# Altium schematic symbol library alientek_sch_lib.SchLib: 379 symbols (part 1 of 3)
Pins are listed as number, name and electrical type; pins without a type are passive.

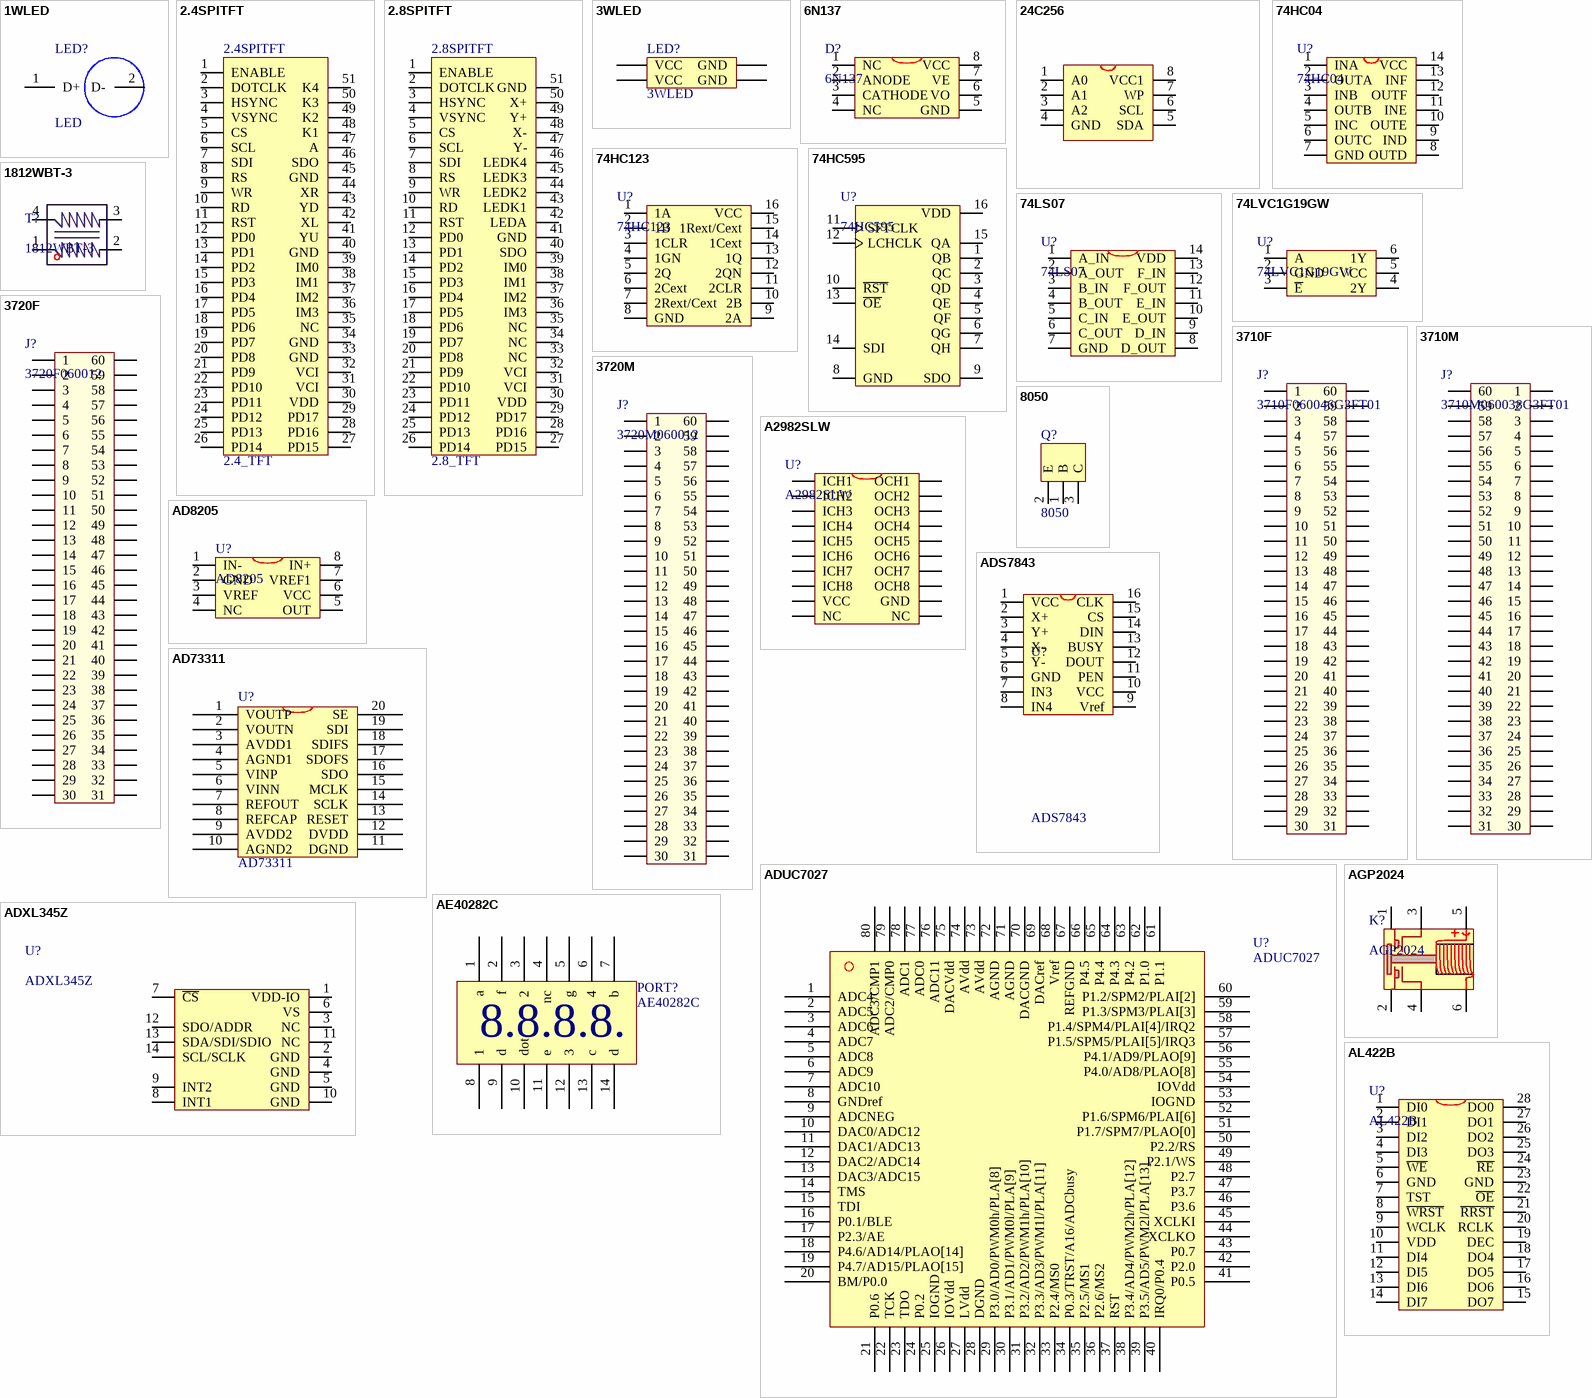
[diagram p0: symbols 1WLED to AL422B]

## 1WLED
designator LED?, comment LED
footprint PLED (POWER LED)
pins: 1 D+, 2 D-

## 2.4SPITFT
designator 2.4SPITFT, comment 2.4_TFT
footprint 2.4SPITFT (2.4_TFT)
pins: 1 ENABLE, 2 DOTCLK, 3 HSYNC, 4 VSYNC, 5 CS, 6 SCL, 7 SDI, 8 RS, 9 WR, 10 RD, 11 RST, 12 PD0, 13 PD1, 14 PD2, 15 PD3, 16 PD4, 17 PD5, 18 PD6, 19 PD7, 20 PD8, 21 PD9, 22 PD10, 23 PD11, 24 PD12, 25 PD13, 26 PD14, 27 PD15, 28 PD16, 29 PD17, 30 VDD, 31 VCI, 32 VCI, 33 GND, 34 GND, 35 NC, 36 IM3, 37 IM2, 38 IM1, 39 IM0, 40 GND, 41 YU, 42 XL, 43 YD, 44 XR, 45 GND, 46 SDO, 47 A, 48 K1, 49 K2, 50 K3, 51 K4

## 2.8SPITFT
designator 2.8SPITFT, comment 2.8_TFT
footprint 2.8SPITFT (2.8_TFT)
pins: 1 ENABLE, 2 DOTCLK, 3 HSYNC, 4 VSYNC, 5 CS, 6 SCL, 7 SDI, 8 RS, 9 WR, 10 RD, 11 RST, 12 PD0, 13 PD1, 14 PD2, 15 PD3, 16 PD4, 17 PD5, 18 PD6, 19 PD7, 20 PD8, 21 PD9, 22 PD10, 23 PD11, 24 PD12, 25 PD13, 26 PD14, 27 PD15, 28 PD16, 29 PD17, 30 VDD, 31 VCI, 32 VCI, 33 NC, 34 NC, 35 NC, 36 IM3, 37 IM2, 38 IM1, 39 IM0, 40 SDO, 41 GND, 42 LEDA, 43 LEDK1, 44 LEDK2, 45 LEDK3, 46 LEDK4, 47 Y-, 48 X-, 49 Y+, 50 X+, 51 GND

## 3WLED
designator LED?
footprint 3WLEDS (3WLED-21)
pins: 1 VCC, 2 VCC, 3 GND, 4 GND

## 6N137
designator D?
footprint DIP8 (DIP8 Row Spacing 7.62 mm; Pitch 2.54 mm)
pins: 1 NC, 2 ANODE, 3 CATHODE, 4 NC, 5 GND, 6 VO, 7 VE, 8 VCC

## 24C256
designator U?
EEPROM
footprint SOP-8 (SSOP8)
footprint TSSOP8 (Shrink Small Outline, MSOP; 8 Leads; Body Width 3 mm; Pitch 0.65 mm)
pins: 1 A0, 2 A1, 3 A2, 4 GND, 5 SDA, 6 SCL, 7 WP, 8 VCC1

## 74HC04
designator U?
footprint SOP14W (CD4066)
pins: 1 INA, 2 OUTA, 3 INB, 4 OUTB, 5 INC, 6 OUTC, 7 GND, 8 OUTD, 9 IND, 10 OUTE, 11 INE, 12 OUTF, 13 INF, 14 VCC

## 74HC123
designator U?
footprint SOP16M (Small Outline; 16 Leads; Body Width 3.9 mm; Pitch 1.27 mm)
pins: 1 1A, 2 1B, 3 1CLR, 4 1GN, 5 2Q, 6 2Cext, 7 2Rext/Cext, 8 GND, 9 2A, 10 2B, 11 2CLR, 12 2QN, 13 1Q, 14 1Cext, 15 1Rext/Cext, 16 VCC

## 74HC595
designator U?
footprint SOP16M (Small Outline; 16 Leads; Body Width 3.9 mm; Pitch 1.27 mm)
pins: 1 QB, 2 QC, 3 QD, 4 QE, 5 QF, 6 QG, 7 QH, 8 GND, 9 SDO, 10 ~{RST}, 11 SFTCLK, 12 LCHCLK, 13 ~{OE}, 14 SDI, 15 QA, 16 VDD

## 74LS07
designator U?
footprint SOP14W (CD4066)
pins: 1 A_IN, 2 A_OUT, 3 B_IN, 4 B_OUT, 5 C_IN, 6 C_OUT, 7 GND, 8 D_OUT, 9 D_IN, 10 E_OUT, 11 E_IN, 12 F_OUT, 13 F_IN, 14 VDD

## 74LVC1G19GW
designator U?
footprint SOT-363
pins: 1 A, 2 GND, 3 ~{E}, 4 2Y, 5 VCC, 6 1Y

## 1812WBT-3
designator T?
footprint SMT-4
pins: 1, 2, 3, 4

## 3710F
designator J?, comment 3710F060046G3FT01
footprint 3710F060046G3FT01 (PIN:0.8mm;SOP;FEMALE)
pins: 1, 2, 3, 4, 5, 6, 7, 8, 9, 10, 11, 12, 13, 14, 15, 16, 17, 18, 19, 20, 21, 22, 23, 24, 25, 26, 27, 28, 29, 30, 31, 32, 33, 34, 35, 36, 37, 38, 39, 40, 41, 42, 43, 44, 45, 46, 47, 48, 49, 50, 51, 52, 53, 54, 55, 56, 57, 58, 59, 60

## 3710M
designator J?, comment 3710M060038G3FT01
footprint 3710M060038G3FT01 (PIN:0.8mm;SOP;MALE)
pins: 1, 2, 3, 4, 5, 6, 7, 8, 9, 10, 11, 12, 13, 14, 15, 16, 17, 18, 19, 20, 21, 22, 23, 24, 25, 26, 27, 28, 29, 30, 31, 32, 33, 34, 35, 36, 37, 38, 39, 40, 41, 42, 43, 44, 45, 46, 47, 48, 49, 50, 51, 52, 53, 54, 55, 56, 57, 58, 59, 60

## 3720F
designator J?, comment 3720F060012
footprint 3720F060012 (PIN:0.5mm;SOP;)
pins: 1, 2, 3, 4, 5, 6, 7, 8, 9, 10, 11, 12, 13, 14, 15, 16, 17, 18, 19, 20, 21, 22, 23, 24, 25, 26, 27, 28, 29, 30, 31, 32, 33, 34, 35, 36, 37, 38, 39, 40, 41, 42, 43, 44, 45, 46, 47, 48, 49, 50, 51, 52, 53, 54, 55, 56, 57, 58, 59, 60

## 3720M
designator J?, comment 3720M060012
footprint 3720M060012 (PIN:0.5mm;SOP;)
pins: 1, 2, 3, 4, 5, 6, 7, 8, 9, 10, 11, 12, 13, 14, 15, 16, 17, 18, 19, 20, 21, 22, 23, 24, 25, 26, 27, 28, 29, 30, 31, 32, 33, 34, 35, 36, 37, 38, 39, 40, 41, 42, 43, 44, 45, 46, 47, 48, 49, 50, 51, 52, 53, 54, 55, 56, 57, 58, 59, 60

## 8050
designator Q?
footprint SOT-23 (SOT-23; 3 Leads; Body 3.0 x 2.5 mm, inc. leads (LxW max))
pins: 1 B, 2 E, 3 C

## A2982SLW
designator U?
footprint SOP20
pins: 1 ICH1, 2 ICH2, 3 ICH3, 4 ICH4, 5 ICH5, 6 ICH6, 7 ICH7, 8 ICH8, 9 VCC, 10 NC, 11 NC, 12 GND, 13 OCH8, 14 OCH7, 15 OCH6, 16 OCH5, 17 OCH4, 18 OCH3, 19 OCH2, 20 OCH1

## AD8205
designator U?
footprint SOP-8 (SOP)
pins: 1 IN-, 2 GND, 3 VREF, 4 NC, 5 OUT, 6 VCC, 7 VREF1, 8 IN+

## AD73311
designator U?
footprint SSOP20
pins: 1 VOUTP, 2 VOUTN, 3 AVDD1, 4 AGND1, 5 VINP, 6 VINN, 7 REFOUT, 8 REFCAP, 9 AVDD2, 10 AGND2, 11 DGND, 12 DVDD, 13 RESET, 14 SCLK, 15 MCLK, 16 SDO, 17 SDOFS, 18 SDIFS, 19 SDI, 20 SE

## ADS7843
designator U?
footprint SSOP16 (ADS7843)
pins: 1 VCC, 2 X+, 3 Y+, 4 X-, 5 Y-, 6 GND, 7 IN3, 8 IN4, 9 Vref, 10 VCC, 11 PEN, 12 DOUT, 13 BUSY, 14 DIN, 15 CS, 16 CLK

## ADUC7027
designator U?
footprint LQFP80
pins: 1 ADC4, 2 ADC5, 3 ADC6, 4 ADC7, 5 ADC8, 6 ADC9, 7 ADC10, 8 GNDref, 9 ADCNEG, 10 DAC0/ADC12, 11 DAC1/ADC13, 12 DAC2/ADC14, 13 DAC3/ADC15, 14 TMS, 15 TDI, 16 P0.1/BLE, 17 P2.3/AE, 18 P4.6/AD14/PLAO[14], 19 P4.7/AD15/PLAO[15], 20 BM/P0.0, 21 P0.6, 22 TCK, 23 TDO, 24 P0.2, 25 IOGND, 26 IOVdd, 27 LVdd, 28 DGND, 29 P3.0/AD0/PWM0h/PLA[8], 30 P3.1/AD1/PWM0l/PLA[9], 31 P3.2/AD2/PWM1h/PLA[10], 32 P3.3/AD3/PWM1l/PLA[11], 33 P2.4/MS0, 34 P0.3/TRST/A16/ADCbusy, 35 P2.5/MS1, 36 P2.6/MS2, 37 RST, 38 P3.4/AD4/PWM2h/PLA[12], 39 P3.5/AD5/PWM2l/PLA[13], 40 IRQ0/P0.4, 41 P0.5, 42 P2.0, 43 P0.7, 44 XCLKO, 45 XCLKI, 46 P3.6, 47 P3.7, 48 P2.7, 49 P2.1/WS, 50 P2.2/RS, 51 P1.7/SPM7/PLAO[0], 52 P1.6/SPM6/PLAI[6], 53 IOGND, 54 IOVdd, 55 P4.0/AD8/PLAO[8], 56 P4.1/AD9/PLAO[9], 57 P1.5/SPM5/PLAI[5]/IRQ3, 58 P1.4/SPM4/PLAI[4]/IRQ2, 59 P1.3/SPM3/PLAI[3], 60 P1.2/SPM2/PLAI[2], 61 P1.1, 62 P1.0, 63 P4.2, 64 P4.3, 65 P4.4, 66 P4.5, 67 REFGND, 68 Vref, 69 DACref, 70 DACGND, 71 AGND, 72 AGND, 73 AVdd, 74 AVdd, 75 DACVdd, 76 ADC11, 77 ADC0, 78 ADC1, 79 ADC2/CMP0, 80 ADC3/CMP1

## ADXL345Z
designator U?
footprint LGA14 (QFN, 14-Leads, Body 5.3x3.3mm (max), Pitch 0.10mm, Pitch1 0.80mm, IPC Medium Density)
pins: 1 VDD-IO, 2 GND, 3 NC, 4 GND, 5 GND, 6 VS, 7 ~{CS}, 8 INT1, 9 INT2, 10 GND, 11 NC, 12 SDO/ADDR, 13 SDA/SDI/SDIO, 14 SCL/SCLK

## AE40282C
designator PORT?
footprint AE40282C
pins: 1 a, 2 f, 3 2, 4 nc, 5 g, 6 4, 7 b, 8 1, 9 d, 10 dot, 11 e, 12 3, 13 c, 14 d
text: 8.8.8.8.

## AGP2024
designator K?
SOL
footprint AGP2024 (size:20mm*11mm*10mm pad:1mm.pads:6.)
pins: 1, 2, 3, 4, 5, 6

## AL422B
designator U?
FIFO
footprint PSOP28 (e:1,27mm;H:11.81mm;D:18.11mm;B:0.41mm;)
pins: 1 DI0, 2 DI1, 3 DI2, 4 DI3, 5 ~{WE}, 6 GND, 7 TST, 8 ~{WRST}, 9 WCLK, 10 VDD, 11 DI4, 12 DI5, 13 DI6, 14 DI7, 15 DO7, 16 DO6, 17 DO5, 18 DO4, 19 DEC, 20 RCLK, 21 ~{RRST}, 22 ~{OE}, 23 GND, 24 ~{RE}, 25 DO3, 26 DO2, 27 DO1, 28 DO0

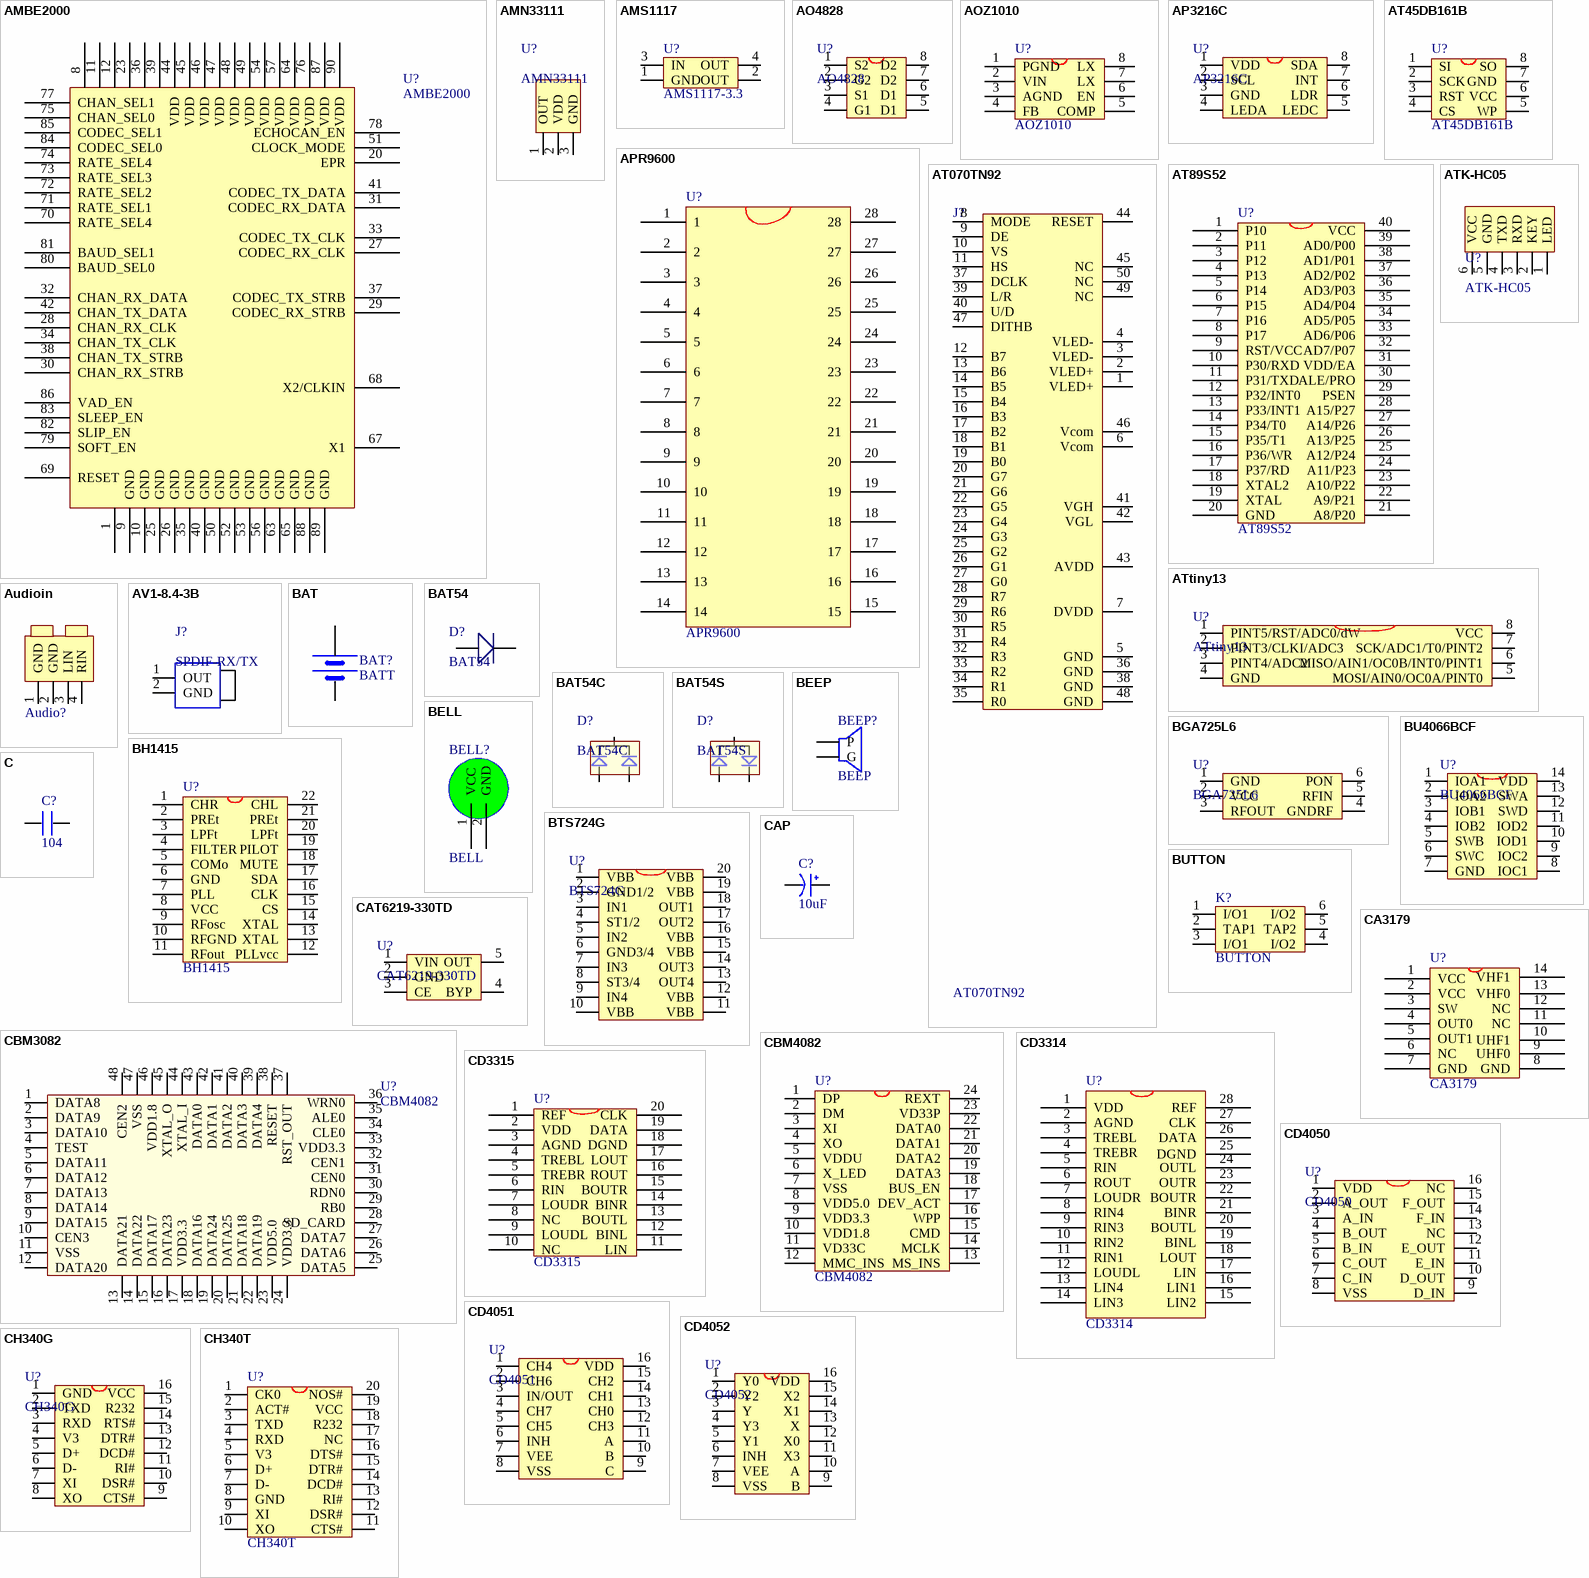
[diagram p1: symbols AMBE2000 to CH340T]

## AMBE2000
designator U?
footprint SOP100 (TQFP)
pins: 1  , 8, 9 GND, 10 GND, 11, 12, 20 EPR, 23  , 25 GND, 26 GND, 27 CODEC_RX_CLK, 28 CHAN_RX_CLK, 29 CODEC_RX_STRB, 30 CHAN_RX_STRB, 31 CODEC_RX_DATA, 32 CHAN_RX_DATA, 33 CODEC_TX_CLK, 34 CHAN_TX_CLK, 35 GND, 36  , 37 CODEC_TX_STRB, 38 CHAN_TX_STRB, 39  , 40 GND, 41 CODEC_TX_DATA, 42 CHAN_TX_DATA, 44 VDD, 45 VDD, 46 VDD, 47 VDD, 48 VDD, 49 VDD, 50 GND, 51 CLOCK_MODE, 52 GND, 53 GND, 54 VDD, 56 GND, 57 VDD, 63 GND, 64 VDD, 65 GND, 67 X1, 68 X2/CLKIN, 69 RESET, 70 RATE_SEL4, 71 RATE_SEL1, 72 RATE_SEL2, 73 RATE_SEL3, 74 RATE_SEL4, 75 CHAN_SEL0, 76 VDD, 77 CHAN_SEL1, 78 ECHOCAN_EN, 79 SOFT_EN, 80 BAUD_SEL0, 81 BAUD_SEL1, 82 SLIP_EN, 83 SLEEP_EN, 84 CODEC_SEL0, 85 CODEC_SEL1, 86 VAD_EN, 87 VDD, 88 GND, 89 GND, 90 VDD

## AMN33111
designator U?
footprint TO-5
pins: 1 OUT, 2 VDD, 3 GND

## AMS1117
designator U?, comment AMS1117-3.3
footprint AMS1117
pins: 1 GND, 2 OUT, 3 IN, 4 OUT

## AO4828
designator U?
60V4.5A@Vgs=10V;DualNMOS
footprint SOP-8 (SOP)
pins: 1 S2, 2 G2, 3 S1, 4 G1, 5 D1, 6 D1, 7 D2, 8 D2

## AOZ1010
designator U?
footprint SOP-8 (SSOP8)
pins: 1 PGND, 2 VIN, 3 AGND, 4 FB, 5 COMP, 6 EN, 7 LX, 8 LX

## AP3216C
designator U?
ALS+PS Sensor
footprint QFN8 (QFN,8P,P0.97)
pins: 1 VDD, 2 SCL, 3 GND, 4 LEDA, 5 LEDC, 6 LDR, 7 INT, 8 SDA

## APR9600
designator U?
footprint DIP-28/D38.7 (DIP; 28 Leads; Row Spacing 15.24 mm; Pitch 2.54 mm)
pins: 1, 2, 3, 4, 5, 6, 7, 8, 9, 10, 11, 12, 13, 14, 15, 16, 17, 18, 19, 20, 21, 22, 23, 24, 25, 26, 27, 28

## AT45DB161B
designator U?
footprint SOIC-8 (SOIC)
pins: 1 SI, 2 SCK, 3 RST, 4 CS, 5 WP, 6 VCC, 7 GND, 8 SO

## AT070TN92
designator J?
7' TFTLCD
footprint FPC-TOP50 (FPCTOP;0.5mm;)
pins: 1 VLED+, 2 VLED+, 3 VLED-, 4 VLED-, 5 GND, 6 Vcom, 7 DVDD, 8 MODE, 9 DE, 10 VS, 11 HS, 12 B7, 13 B6, 14 B5, 15 B4, 16 B3, 17 B2, 18 B1, 19 B0, 20 G7, 21 G6, 22 G5, 23 G4, 24 G3, 25 G2, 26 G1, 27 G0, 28 R7, 29 R6, 30 R5, 31 R4, 32 R3, 33 R2, 34 R1, 35 R0, 36 GND, 37 DCLK, 38 GND, 39 L/R, 40 U/D, 41 VGH, 42 VGL, 43 AVDD, 44 RESET, 45 NC, 46 Vcom, 47 DITHB, 48 GND, 49 NC, 50 NC
2 alternate drawings of the same symbol

## AT89S52
designator U?
footprint DIP-40 (DIP; 40 Leads; Row Spacing 15.24 mm; Pitch 2.54 mm)
footprint DIP-40 (DIP; 40 Leads; Row Spacing 15.24 mm; Pitch 2.54 mm)
pins: 1 P10, 2 P11, 3 P12, 4 P13, 5 P14, 6 P15, 7 P16, 8 P17, 9 RST/VCC, 10 P30/RXD, 11 P31/TXD, 12 P32/INT0, 13 P33/INT1, 14 P34/T0, 15 P35/T1, 16 P36/WR, 17 P37/RD, 18 XTAL2, 19 XTAL, 20 GND, 21 A8/P20, 22 A9/P21, 23 A10/P22, 24 A11/P23, 25 A12/P24, 26 A13/P25, 27 A14/P26, 28 A15/P27, 29 PSEN, 30 ALE/PRO, 31 VDD/EA, 32 AD7/P07, 33 AD6/P06, 34 AD5/P05, 35 AD4/P04, 36 AD3/P03, 37 AD2/P02, 38 AD1/P01, 39 AD0/P00, 40 VCC

## ATK-HC05
designator U?
footprint HEAD6 (PIN:2.54mm;HEAD;)
pins: 1 LED, 2 KEY, 3 RXD, 4 TXD, 5 GND, 6 VCC

## ATtiny13
designator U?
footprint SOP-8 (SOP)
pins: 1 PINT5/RST/ADC0/dW, 2 PINT3/CLKI/ADC3, 3 PINT4/ADC2, 4 GND, 5 MOSI/AIN0/OC0A/PINT0, 6 MISO/AIN1/OC0B/INT0/PINT1, 7 SCK/ADC1/T0/PINT2, 8 VCC

## Audioin
designator Audio?  (value not drawn)
footprint Audio_in
pins: 1 GND, 2 GND, 3 LIN, 4 RIN

## AV1-8.4-3B
designator J?, comment SPDIF-RX/TX
AV1-8.4-3B
footprint AV1-8.4-3B
pins: 1 OUT, 2 GND

## BAT
designator BAT?, comment BATT
footprint BATM (BAT)
footprint BAT (BATTERY)
pins: 1 VCC, 2 GND

## BAT54
designator D?
单肖特基二极管
footprint SOT-23 (SOT-23; 3 Leads; Body 3.0 x 2.5 mm, inc. leads (LxW max))
pins: 1, 3

## BAT54C
designator D?
双肖特基二极管
footprint SOT-23 (SOT-23; 3 Leads; Body 3.0 x 2.5 mm, inc. leads (LxW max))
pins: 1, 2, 3

## BAT54S
designator D?
双肖特基二极管
footprint SOT-23 (SOT-23; 3 Leads; Body 3.0 x 2.5 mm, inc. leads (LxW max))
pins: 1, 2, 3

## BEEP
designator BEEP?
footprint BUZZ0.25
footprint BELL-5 (PIN:5MM,SIZE:10MM)
pins: 1 P, 2 G

## BELL
designator BELL?
footprint BELL
pins: 1 VCC, 2 GND

## BGA725L6
designator U?
GPS LNA
footprint TSLP-6-2 (1.4x0.7mm (max), Pitch 0.40mm,)
pins: 1 GND, 2 VCC, 3 RFOUT, 4 GNDRF, 5 RFIN, 6 PON

## BH1415
designator U?
footprint SO-22 (BH1417)
pins: 1 CHR, 2 PREt, 3 LPFt, 4 FILTER, 5 COMo, 6 GND, 7 PLL, 8 VCC, 9 RFosc, 10 RFGND, 11 RFout, 12 PLLvcc, 13 XTAL, 14 XTAL, 15 CS, 16 CLK, 17 SDA, 18 MUTE, 19 PILOT, 20 LPFt, 21 PREt, 22 CHL

## BTS724G
designator U?
footprint SOP20
pins: 1 VBB, 2 GND1/2, 3 IN1, 4 ST1/2, 5 IN2, 6 GND3/4, 7 IN3, 8 ST3/4, 9 IN4, 10 VBB, 11 VBB, 12 VBB, 13 OUT4, 14 OUT3, 15 VBB, 16 VBB, 17 OUT2, 18 OUT1, 19 VBB, 20 VBB

## BU4066BCF
designator U?
footprint SOP14W (CD4066)
pins: 1 IOA1, 2 IOA2, 3 IOB1, 4 IOB2, 5 SWB, 6 SWC, 7 GND, 8 IOC1, 9 IOC2, 10 IOD1, 11 IOD2, 12 SWD, 13 SWA, 14 VDD

## BUTTON
designator K?
footprint BTN8.5*8.5 (8.5MM*8.5MM)
footprint BTN7*7 (7mm*7mm)
pins: 1 I/O1, 2 TAP1, 3 I/O1, 4 I/O2, 5 TAP2, 6 I/O2

## C
designator C?, comment 104
footprint 0603P
footprint 0805
footprint CC5.08 (CAP0.1)
footprint CC4.572 (222/332)
footprint 1206
footprint 1210
footprint CC6.096
footprint CC7.62
footprint CVAR (4MM*6.6MM)
footprint 0402
pins: 1, 2

## CA3179
designator U?
footprint DIP-14 (DIP; 14 Leads; Row Spacing 7.62 mm; Pitch 2.54 mm)
pins: 1 VCC, 2 VCC, 3 SW, 4 OUT0, 5 OUT1, 6 NC, 7 GND, 8 GND, 9 UHF0, 10 UHF1, 11 NC, 12 NC, 13 VHF0, 14 VHF1

## CAP
designator C?, comment 10uF
footprint C1206
footprint CAP2.54 (RB.1/.2)
footprint CAP5.08 (RB.2/.4)
footprint CAP7.62 (25V 2200uF)
footprint CAP10.16 (50V10000uF)
footprint CAP10.9 (50V 2200uF)
footprint CAP3.0 (100V 10uF)
footprint CAP8.0 (25V/4700uF)
footprint CAP8.0_2 (50V/4700uF)
footprint C7040 (7MM*4MM)
footprint CC1010 (SMD;W:10mm;L:10mm;)
footprint CC6.56.5 (SMD;W:6.5mm;L:6.5mm;)
footprint CC88 (SMD;W:8mm;L:8mm;)
footprint CAP2.54M (6mm*8mm)
footprint CAP12.5 (12.5mm*20mm,pin:5.08mm)
footprint CAP5.08_2 (RB 5.08/13)
footprint C3528
pins: 1 VCC, 2 GND

## CAT6219-330TD
designator U?
3.3V 500mA LDO
footprint SOT-23-5
pins: 1 VIN, 2 GND, 3 CE, 4 BYP, 5 OUT

## CBM3082
designator U?, comment CBM4082
footprint mTQFP48 (5.8mm)
pins: 1 DATA8, 2 DATA9, 3 DATA10, 4 TEST, 5 DATA11, 6 DATA12, 7 DATA13, 8 DATA14, 9 DATA15, 10 CEN3, 11 VSS, 12 DATA20, 13 DATA21, 14 DATA22, 15 DATA17, 16 DATA23, 17 VDD3.3, 18 DATA16, 19 DATA24, 20 DATA25, 21 DATA18, 22 DATA19, 23 VDD5.0, 24 VDD3.3, 25 DATA5, 26 DATA6, 27 DATA7, 28 SD_CARD, 29 RB0, 30 RDN0, 31 CEN0, 32 CEN1, 33 VDD3.3, 34 CLE0, 35 ALE0, 36 WRN0, 37 RST_OUT, 38 RESET, 39 DATA4, 40 DATA3, 41 DATA2, 42 DATA1, 43 DATA0, 44 XTAL_I, 45 XTAL_O, 46 VDD1.8, 47 VSS, 48 CEN2

## CBM4082
designator U?
footprint SOP24
pins: 1 DP, 2 DM, 3 XI, 4 XO, 5 VDDU, 6 X_LED, 7 VSS, 8 VDD5.0, 9 VDD3.3, 10 VDD1.8, 11 VD33C, 12 MMC_INS, 13 MS_INS, 14 MCLK, 15 CMD, 16 WPP, 17 DEV_ACT, 18 BUS_EN, 19 DATA3, 20 DATA2, 21 DATA1, 22 DATA0, 23 VD33P, 24 REXT

## CD3314
designator U?
footprint SOP28
pins: 1 VDD, 2 AGND, 3 TREBL, 4 TREBR, 5 RIN, 6 ROUT, 7 LOUDR, 8 RIN4, 9 RIN3, 10 RIN2, 11 RIN1, 12 LOUDL, 13 LIN4, 14 LIN3, 15 LIN2, 16 LIN1, 17 LIN, 18 LOUT, 19 BINL, 20 BOUTL, 21 BINR, 22 BOUTR, 23 OUTR, 24 OUTL, 25 DGND, 26 DATA, 27 CLK, 28 REF

## CD3315
designator U?
footprint SOP20
pins: 1 REF, 2 VDD, 3 AGND, 4 TREBL, 5 TREBR, 6 RIN, 7 LOUDR, 8 NC, 9 LOUDL, 10 NC, 11 LIN, 12 BINL, 13 BOUTL, 14 BINR, 15 BOUTR, 16 ROUT, 17 LOUT, 18 DGND, 19 DATA, 20 CLK

## CD4050
designator U?
footprint SOP16M (Small Outline; 16 Leads; Body Width 3.9 mm; Pitch 1.27 mm)
pins: 1 VDD, 2 A_OUT, 3 A_IN, 4 B_OUT, 5 B_IN, 6 C_OUT, 7 C_IN, 8 VSS, 9 D_IN, 10 D_OUT, 11 E_IN, 12 E_OUT, 13 NC, 14 F_IN, 15 F_OUT, 16 NC

## CD4051
designator U?
footprint SOP16M (Small Outline; 16 Leads; Body Width 3.9 mm; Pitch 1.27 mm)
pins: 1 CH4, 2 CH6, 3 IN/OUT, 4 CH7, 5 CH5, 6 INH, 7 VEE, 8 VSS, 9 C, 10 B, 11 A, 12 CH3, 13 CH0, 14 CH1, 15 CH2, 16 VDD

## CD4052
designator U?
footprint SOP16M (Small Outline; 16 Leads; Body Width 3.9 mm; Pitch 1.27 mm)
pins: 1 Y0, 2 Y2, 3 Y, 4 Y3, 5 Y1, 6 INH, 7 VEE, 8 VSS, 9 B, 10 A, 11 X3, 12 X0, 13 X, 14 X1, 15 X2, 16 VDD

## CH340G
designator U?
USB2UART
footprint SOP16M (Small Outline; 16 Leads; Body Width 3.9 mm; Pitch 1.27 mm)
pins: 1 GND, 2 TXD, 3 RXD, 4 V3, 5 D+, 6 D-, 7 XI, 8 XO, 9 CTS#, 10 DSR#, 11 RI#, 12 DCD#, 13 DTR#, 14 RTS#, 15 R232, 16 VCC

## CH340T
designator U?
USB2UART
footprint SSOP20M (SOP20M)
pins: 1 CK0, 2 ACT#, 3 TXD, 4 RXD, 5 V3, 6 D+, 7 D-, 8 GND, 9 XI, 10 XO, 11 CTS#, 12 DSR#, 13 RI#, 14 DCD#, 15 DTR#, 16 DTS#, 17 NC, 18 R232, 19 VCC, 20 NOS#

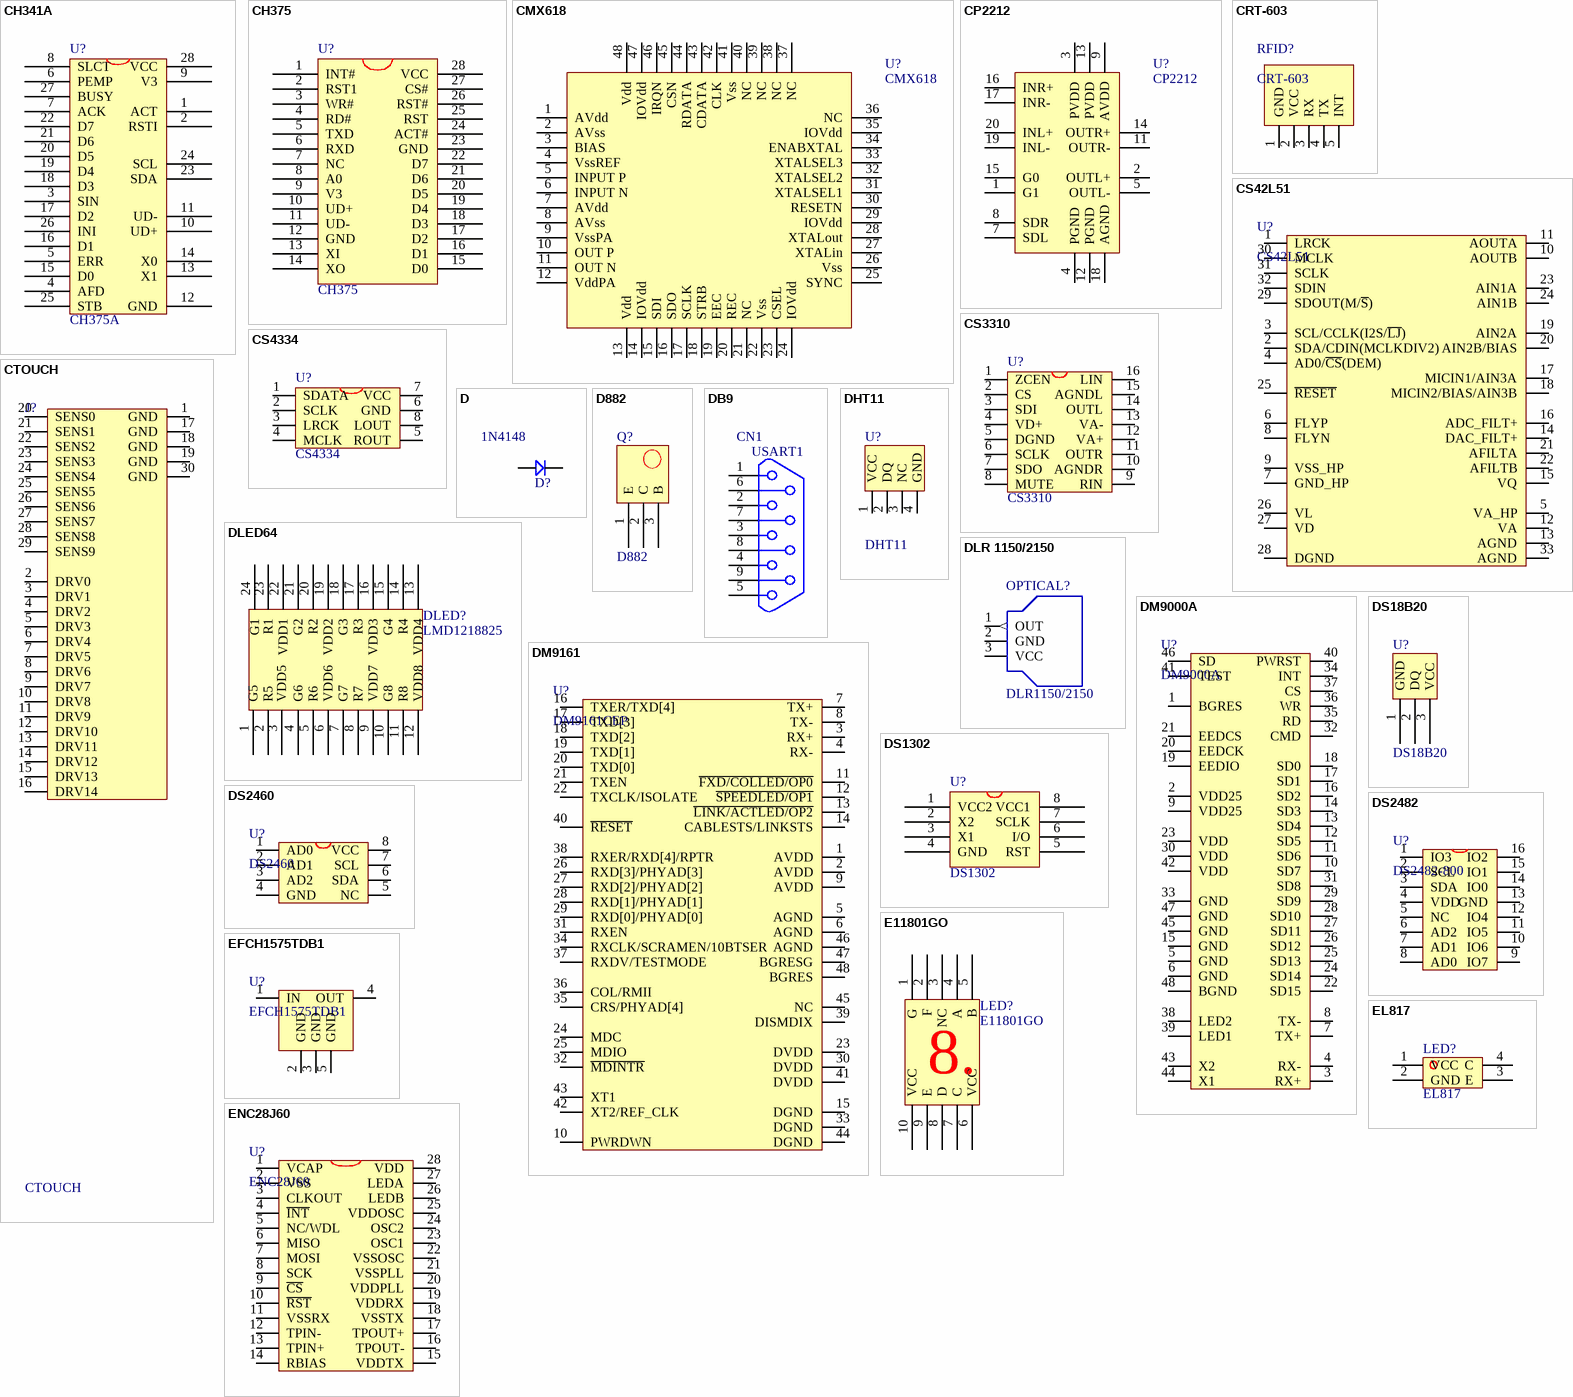
[diagram p2: symbols CH341A to ENC28J60]

## CH341A
designator U?, comment CH375A
USB2UART&LPT
footprint SOP28
pins: 1 ACT, 2 RSTI, 3 SIN, 4 AFD, 5 ERR, 6 PEMP, 7 ACK, 8 SLCT, 9 V3, 10 UD+, 11 UD-, 12 GND, 13 X1, 14 X0, 15 D0, 16 D1, 17 D2, 18 D3, 19 D4, 20 D5, 21 D6, 22 D7, 23 SDA, 24 SCL, 25 STB, 26 INI, 27 BUSY, 28 VCC

## CH375
designator U?
footprint SOP28
pins: 1 INT#, 2 RST1, 3 WR#, 4 RD#, 5 TXD, 6 RXD, 7 NC, 8 A0, 9 V3, 10 UD+, 11 UD-, 12 GND, 13 XI, 14 XO, 15 D0, 16 D1, 17 D2, 18 D3, 19 D4, 20 D5, 21 D6, 22 D7, 23 GND, 24 ACT#, 25 RST, 26 RST#, 27 CS#, 28 VCC

## CMX618
designator U?
footprint mTQFP48 (5.8mm)
pins: 1 AVdd, 2 AVss, 3 BIAS, 4 VssREF, 5 INPUT P, 6 INPUT N, 7 AVdd, 8 AVss, 9 VssPA, 10 OUT P, 11 OUT N, 12 VddPA, 13 Vdd, 14 IOVdd, 15 SDI, 16 SDO, 17 SCLK, 18 STRB, 19 EEC, 20 REC, 21 NC, 22 Vss, 23 CSEL, 24 IOVdd, 25 SYNC, 26 Vss, 27 XTALin, 28 XTALout, 29 IOVdd, 30 RESETN, 31 XTALSEL1, 32 XTALSEL2, 33 XTALSEL3, 34 ENABXTAL, 35 IOVdd, 36 NC, 37 NC, 38 NC, 39 NC, 40 NC, 41 Vss, 42 CLK, 43 CDATA, 44 RDATA, 45 CSN, 46 IRQN, 47 IOVdd, 48 Vdd

## CP2212
designator U?
footprint QFN20
pins: 1 G1, 2 OUTL+, 3 PVDD, 4 PGND, 5 OUTL-, 7 SDL, 8 SDR, 9 AVDD, 11 OUTR-, 12 PGND, 13 PVDD, 14 OUTR+, 15 G0, 16 INR+, 17 INR-, 18 AGND, 19 INL-, 20 INL+

## CRT-603
designator RFID?
footprint CRT-603(RFID) (RFID,)
pins: 1 GND, 2 VCC, 3 RX, 4 TX, 5 INT

## CS42L51
designator U?
DAC&ADC
footprint qfn32 (QFN, 32-Leads, Body 5.0x5.0mm (max), Pitch 0.50mm, IPC Medium Density)
pins: 1 LRCK, 2 SDA/CDIN(MCLKDIV2), 3 SCL/CCLK(I2S/~{LJ}), 4 AD0/~{CS}(DEM), 5 VA_HP, 6 FLYP, 7 GND_HP, 8 FLYN, 9 VSS_HP, 10 AOUTB, 11 AOUTA, 12 VA, 13 AGND, 14 DAC_FILT+, 15 VQ, 16 ADC_FILT+, 17 MICIN1/AIN3A, 18 MICIN2/BIAS/AIN3B, 19 AIN2A, 20 AIN2B/BIAS, 21 AFILTA, 22 AFILTB, 23 AIN1A, 24 AIN1B, 25 ~{RESET}, 26 VL, 27 VD, 28 DGND, 29 SDOUT(M/~{S}), 30 MCLK, 31 SCLK, 32 SDIN, 33 AGND

## CS3310
designator U?
footprint SOP16 (1.28mm)
pins: 1 ZCEN, 2 CS, 3 SDI, 4 VD+, 5 DGND, 6 SCLK, 7 SDO, 8 MUTE, 9 RIN, 10 AGNDR, 11 OUTR, 12 VA+, 13 VA-, 14 OUTL, 15 AGNDL, 16 LIN

## CS4334
designator U?
footprint SOP-8 (SSOP8)
pins: 1 SDATA, 2 SCLK, 3 LRCK, 4 MCLK, 5 ROUT, 6 GND, 7 VCC, 8 LOUT

## CTOUCH
designator J?
7' 电容触摸屏
footprint FPC50
footprint FPC-TOP30 (FPCTOP;0.5mm;)
pins: 1 GND, 2 DRV0, 3 DRV1, 4 DRV2, 5 DRV3, 6 DRV4, 7 DRV5, 8 DRV6, 9 DRV7, 10 DRV8, 11 DRV9, 12 DRV10, 13 DRV11, 14 DRV12, 15 DRV13, 16 DRV14, 17 GND, 18 GND, 19 GND, 20 SENS0, 21 SENS1, 22 SENS2, 23 SENS3, 24 SENS4, 25 SENS5, 26 SENS6, 27 SENS7, 28 SENS8, 29 SENS9, 30 GND
2 alternate drawings of the same symbol

## D
designator D?, comment 1N4148
footprint SOD-123
footprint DIODE_SOP (4148)
footprint DIODE-L (6A10)
footprint DIODE-M (1N5822)
footprint DIODE_S (1N4007)
footprint DIODE_3*5.3 (ME:SS14/SS24;L:5.3mm;W:3mm;)
footprint DIODE_4*5.6 (ME:RS2J.L:5.6mm;W:4mm)
footprint DIODE_6.2*8.13 (ME:RS2J.L:8.13mm;W:6.2mm)
footprint SOD-523 (1mmX2mmX0.7mm)
pins: 1, 2

## D882
designator Q?
footprint DB88X
pins: 1 E, 2 C, 3 B

## DB9
designator CN1, comment USART1
footprint DB9
pins: 1, 2, 3, 4, 5, 6, 7, 8, 9
2 alternate drawings of the same symbol

## DHT11
designator U?
数字温湿度传感器
footprint DHT11 (2.54mm)
pins: 1 VCC, 2 DQ, 3 NC, 4 GND

## DLED64
designator DLED?, comment LMD1218825
footprint DLED8*8
pins: 1 G5, 2 R5, 3 VDD5, 4 G6, 5 R6, 6 VDD6, 7 G7, 8 R7, 9 VDD7, 10 G8, 11 R8, 12 VDD8, 13 VDD4, 14 R4, 15 G4, 16 VDD3, 17 R3, 18 G3, 19 VDD2, 20 R2, 21 G2, 22 VDD1, 23 R1, 24 G1

## DLR 1150/2150
designator OPTICAL?, comment DLR1150/2150
音频光纤接收座
footprint DLR-1150 / 2150 (光纤接收座13.55x9.70x12.00)
pins: 1 OUT (out), 2 GND (power), 3 VCC (power)

## DM9000A
designator U?
footprint LQFP48S (DPIN-0.5)
footprint mTQFP48 (5.8mm)
pins: 1 BGRES, 2 VDD25, 3 RX+, 4 RX-, 5 GND, 6 GND, 7 TX+, 8 TX-, 9 VDD25, 10 SD7, 11 SD6, 12 SD5, 13 SD4, 14 SD3, 15 GND, 16 SD2, 17 SD1, 18 SD0, 19 EEDIO, 20 EEDCK, 21 EEDCS, 22 SD15, 23 VDD, 24 SD14, 25 SD13, 26 SD12, 27 SD11, 28 SD10, 29 SD9, 30 VDD, 31 SD8, 32 CMD, 33 GND, 34 INT, 35 RD, 36 WR, 37 CS, 38 LED2, 39 LED1, 40 PWRST, 41 TEST, 42 VDD, 43 X2, 44 X1, 45 GND, 46 SD, 47 GND, 48 BGND

## DM9161
designator U?, comment DM9161CEP
footprint LQFP48S (DPIN-0.5)
footprint mTQFP48 (5.8mm)
pins: 1 AVDD, 2 AVDD, 3 RX+, 4 RX-, 5 AGND, 6 AGND, 7 TX+, 8 TX-, 9 AVDD, 10 PWRDWN, 11 ~{FXD/COLLED/OP0}, 12 ~{SPEEDLED/OP1}, 13 ~{LINK/ACTLED/OP2}, 14 CABLESTS/LINKSTS, 15 DGND, 16 TXER/TXD[4], 17 TXD[3], 18 TXD[2], 19 TXD[1], 20 TXD[0], 21 TXEN, 22 TXCLK/ISOLATE, 23 DVDD, 24 MDC, 25 MDIO, 26 RXD[3]/PHYAD[3], 27 RXD[2]/PHYAD[2], 28 RXD[1]/PHYAD[1], 29 RXD[0]/PHYAD[0], 30 DVDD, 31 RXEN, 32 ~{MDINTR}, 33 DGND, 34 RXCLK/SCRAMEN/10BTSER, 35 CRS/PHYAD[4], 36 COL/RMII, 37 RXDV/TESTMODE, 38 RXER/RXD[4]/RPTR, 39 DISMDIX, 40 ~{RESET}, 41 DVDD, 42 XT2/REF_CLK, 43 XT1, 44 DGND, 45 NC, 46 AGND, 47 BGRESG, 48 BGRES

## DS18B20
designator U?
footprint DS18B20
pins: 1 GND, 2 DQ, 3 VCC

## DS1302
designator U?
footprint SOP-8 (SSOP8)
pins: 1 VCC2, 2 X2, 3 X1, 4 GND, 5 RST, 6 I/O, 7 SCLK, 8 VCC1

## DS2460
designator U?
DS2460S
footprint SOP-8 (SOP)
pins: 1 AD0, 2 AD1, 3 AD2, 4 GND, 5 NC, 6 SDA, 7 SCL, 8 VCC

## DS2482
designator U?, comment DS2482-800
footprint SOP16M (Small Outline; 16 Leads; Body Width 3.9 mm; Pitch 1.27 mm)
pins: 1 IO3, 2 SCL, 3 SDA, 4 VDD, 5 NC, 6 AD2, 7 AD1, 8 AD0, 9 IO7, 10 IO6, 11 IO5, 12 IO4, 13 GND, 14 IO0, 15 IO1, 16 IO2

## E11801GO
designator LED?
footprint E11801GO
pins: 1 G, 2 F, 3 NC, 4 A, 5 B, 6 VCC, 7 C, 8 D, 9 E, 10 VCC
text: 8.

## EFCH1575TDB1
designator U?
SAW 1575Ghz
footprint QCS5E (1.8mmX1.4mm)
pins: 1 IN, 2 GND, 3 GND, 4 OUT, 5 GND

## EL817
designator LED?
footprint DIP4 (DIP-4)
pins: 1 VCC, 2 GND, 3 E, 4 C

## ENC28J60
designator U?
footprint SOP28
pins: 1 VCAP, 2 VSS, 3 CLKOUT, 4 ~{INT}, 5 NC/WDL, 6 MISO, 7 MOSI, 8 SCK, 9 ~{CS}, 10 ~{RST}, 11 VSSRX, 12 TPIN-, 13 TPIN+, 14 RBIAS, 15 VDDTX, 16 TPOUT-, 17 TPOUT+, 18 VSSTX, 19 VDDRX, 20 VDDPLL, 21 VSSPLL, 22 VSSOSC, 23 OSC1, 24 OSC2, 25 VDDOSC, 26 LEDB, 27 LEDA, 28 VDD

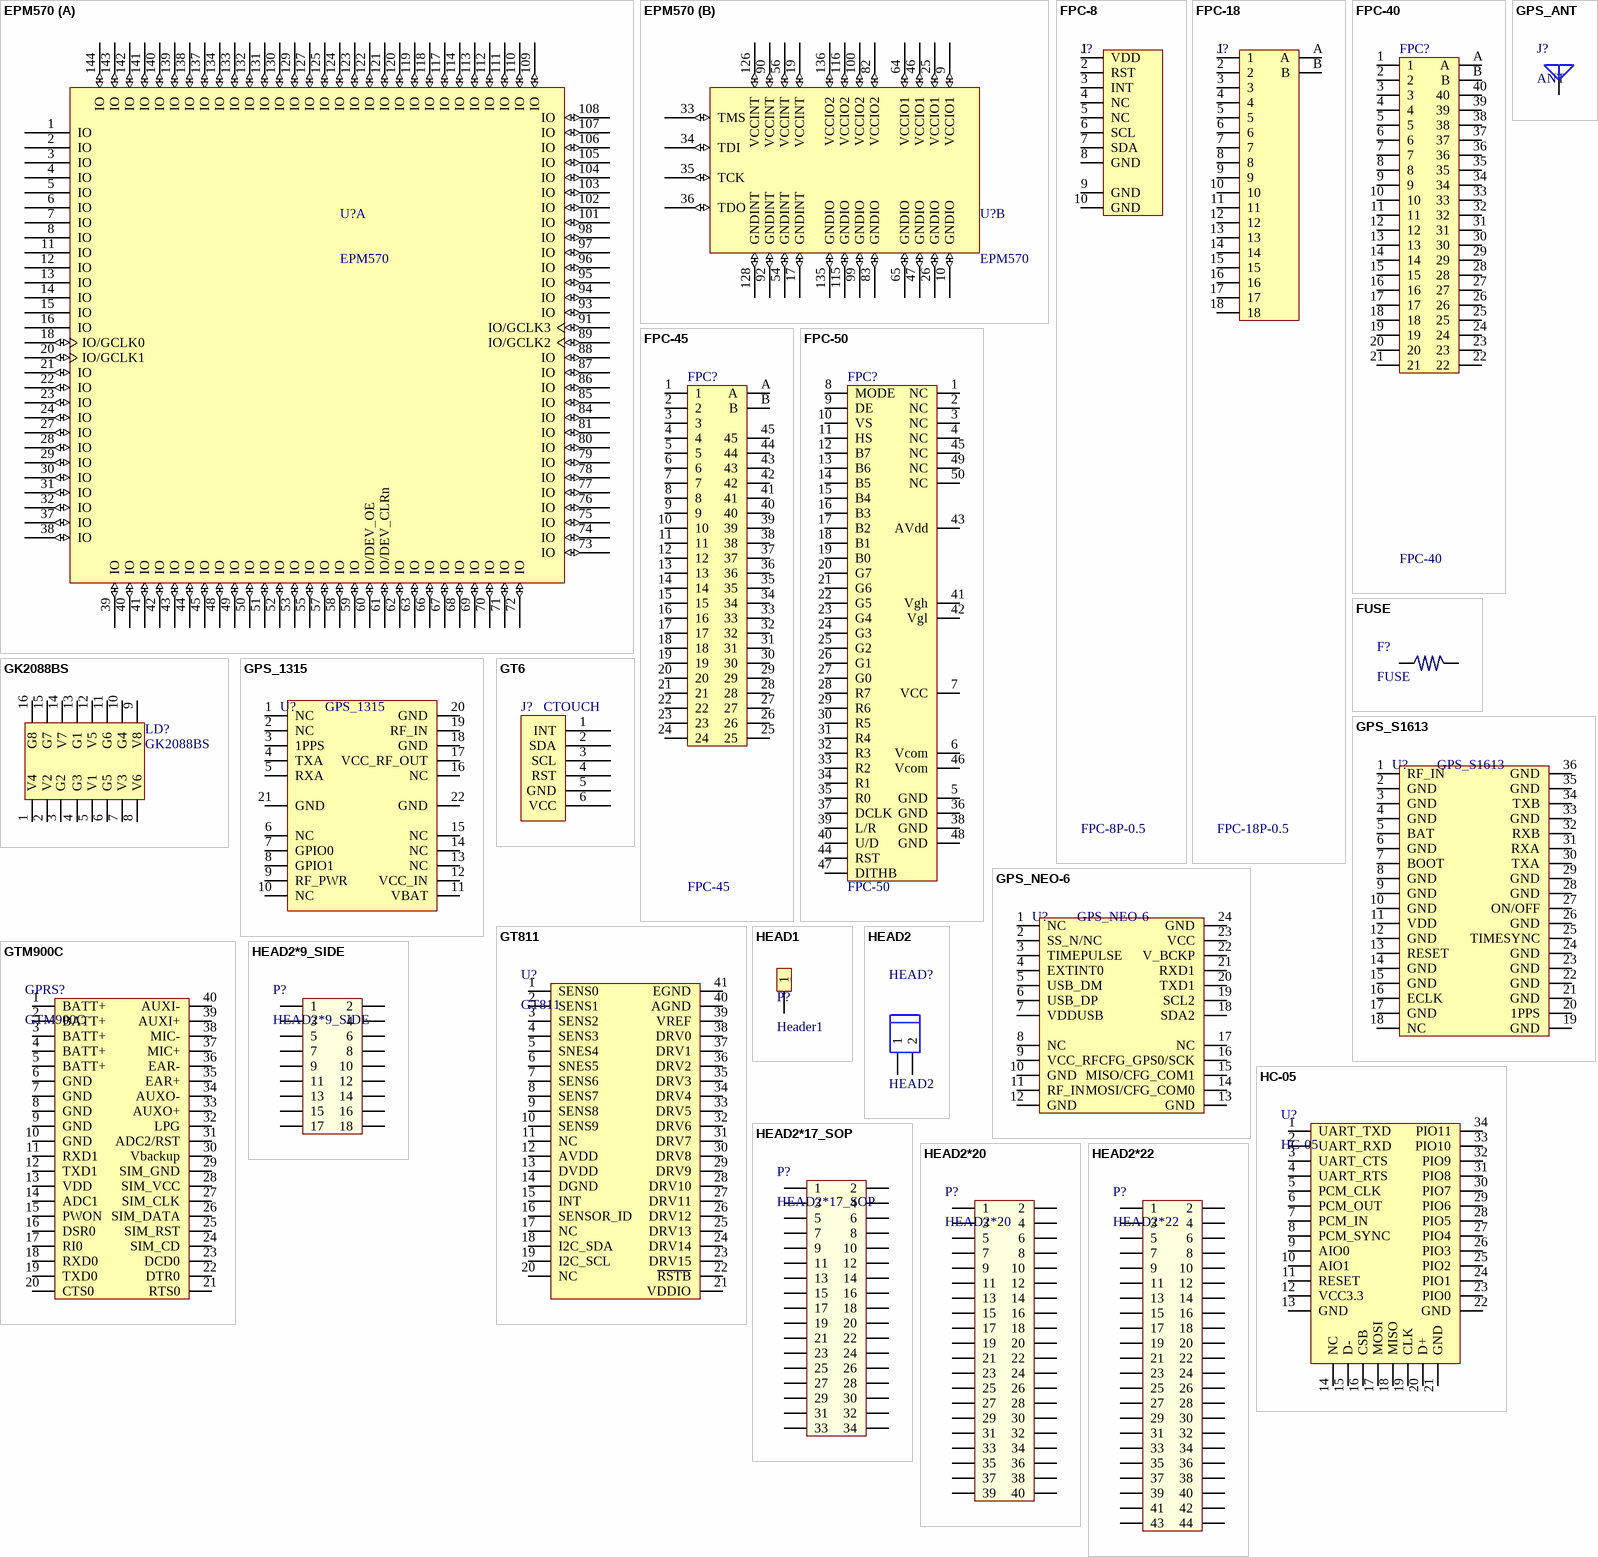
[diagram p3: symbols EPM570 to HEAD2*22]

## EPM570
designator U?
CPLD
footprint LQFP144
part A pins: 1 IO, 2 IO, 3 IO, 4 IO, 5 IO, 6 IO, 7 IO, 8 IO, 11 IO, 12 IO, 13 IO, 14 IO, 15 IO, 16 IO, 18 IO/GCLK0 (io), 20 IO/GCLK1 (io), 21 IO (io), 22 IO (io), 23 IO (io), 24 IO (io), 27 IO (io), 28 IO (io), 29 IO (io), 30 IO (io), 31 IO (io), 32 IO (io), 37 IO (io), 38 IO (io), 39 IO (io), 40 IO (io), 41 IO (io), 42 IO (io), 43 IO (io), 44 IO (io), 45 IO (io), 48 IO (io), 49 IO (io), 50 IO (io), 51 IO (io), 52 IO (io), 53 IO (io), 55 IO (io), 57 IO (io), 58 IO (io), 59 IO (io), 60 IO/DEV_OE (io), 61 IO/DEV_CLRn (io), 62 IO (io), 63 IO (io), 66 IO (io), 67 IO (io), 68 IO (io), 69 IO (io), 70 IO (io), 71 IO (io), 72 IO (io), 73 IO (io), 74 IO (io), 75 IO (io), 76 IO (io), 77 IO (io), 78 IO (io), 79 IO (io), 80 IO (io), 81 IO (io), 84 IO (io), 85 IO (io), 86 IO (io), 87 IO (io), 88 IO (io), 89 IO/GCLK2 (io), 91 IO/GCLK3 (io), 93 IO (io), 94 IO (io), 95 IO (io), 96 IO (io), 97 IO (io), 98 IO (io), 101 IO (io), 102 IO (io), 103 IO (io), 104 IO (io), 105 IO (io), 106 IO (io), 107 IO (io), 108 IO (io), 109 IO (io), 110 IO (io), 111 IO (io), 112 IO (io), 113 IO (io), 114 IO (io), 117 IO (io), 118 IO (io), 119 IO (io), 120 IO (io), 121 IO (io), 122 IO (io), 123 IO (io), 124 IO (io), 125 IO (io), 127 IO (io), 129 IO (io), 130 IO (io), 131 IO (io), 132 IO (io), 133 IO (io), 134 IO (io), 137 IO (io), 138 IO (io), 139 IO (io), 140 IO (io), 141 IO (io), 142 IO (io), 143 IO (io), 144 IO (io)
part B pins: 9 VCCIO1 (io), 10 GNDIO (io), 17 GNDINT (io), 19 VCCINT (io), 25 VCCIO1 (io), 26 GNDIO (io), 33 TMS (io), 34 TDI (io), 35 TCK (io), 36 TDO (io), 46 VCCIO1 (io), 47 GNDIO (io), 54 GNDINT (io), 56 VCCINT (io), 64 VCCIO1 (io), 65 GNDIO (io), 82 VCCIO2 (io), 83 GNDIO (io), 90 VCCINT (io), 92 GNDINT (io), 99 GNDIO (io), 100 VCCIO2 (io), 115 GNDIO (io), 116 VCCIO2 (io), 126 VCCINT (io), 128 GNDINT (io), 135 GNDIO (io), 136 VCCIO2 (io)
2 alternate drawings of the same symbol

## FPC-8
designator J?, comment FPC-8P-0.5
FPC-8P-0.5mm
footprint FPC50
footprint FPC-8P (FPC;8P;0.5mm;)
pins: 1 VDD, 2 RST, 3 INT, 4 NC, 5 NC, 6 SCL, 7 SDA, 8 GND, 9 GND, 10 GND
2 alternate drawings of the same symbol

## FPC-18
designator J?, comment FPC-18P-0.5
FPC-18P-0.5mm
footprint FPC50
footprint FPC-18-0.5 (18PIN,0.5MM)
pins: 1, 2, 3, 4, 5, 6, 7, 8, 9, 10, 11, 12, 13, 14, 15, 16, 17, 18, A, B
2 alternate drawings of the same symbol

## FPC-40
designator FPC?
FPC-40P-0.5mm
footprint FPC-TOP40 (FPCTOP;0.5mm;)
pins: 1, 2, 3, 4, 5, 6, 7, 8, 9, 10, 11, 12, 13, 14, 15, 16, 17, 18, 19, 20, 21, 22, 23, 24, 25, 26, 27, 28, 29, 30, 31, 32, 33, 34, 35, 36, 37, 38, 39, 40, A, B

## FPC-45
designator FPC?
FPC-45P-0.5mm
footprint FPC-TOP45 (FPCTOP;0.5mm;)
pins: 1, 2, 3, 4, 5, 6, 7, 8, 9, 10, 11, 12, 13, 14, 15, 16, 17, 18, 19, 20, 21, 22, 23, 24, 25, 26, 27, 28, 29, 30, 31, 32, 33, 34, 35, 36, 37, 38, 39, 40, 41, 42, 43, 44, 45, A, B

## FPC-50
designator FPC?
LCD800600
footprint FPC-TOP50 (FPCTOP)
pins: 1 NC, 2 NC, 3 NC, 4 NC, 5 GND, 6 Vcom, 7 VCC, 8 MODE, 9 DE, 10 VS, 11 HS, 12 B7, 13 B6, 14 B5, 15 B4, 16 B3, 17 B2, 18 B1, 19 B0, 20 G7, 21 G6, 22 G5, 23 G4, 24 G3, 25 G2, 26 G1, 27 G0, 28 R7, 29 R6, 30 R5, 31 R4, 32 R3, 33 R2, 34 R1, 35 R0, 36 GND, 37 DCLK, 38 GND, 39 L/R, 40 U/D, 41 Vgh, 42 Vgl, 43 AVdd, 44 RST, 45 NC, 46 Vcom, 47 DITHB, 48 GND, 49 NC, 50 NC

## FUSE
designator F?
footprint FUSE_SOP (4A;SOP;FUSE;W:5mm;L:12mm;)
pins: 1, 2

## GK2088BS
designator LD?
footprint GK2088BS
pins: 1 V4, 2 V2, 3 G2, 4 G3, 5 V1, 6 G5, 7 V3, 8 V6, 9 V8, 10 G4, 11 G6, 12 V5, 13 G1, 14 V7, 15 G7, 16 G8

## GPS_1315
designator U?
footprint GPS_1315
pins: 1 NC, 2 NC, 3 1PPS, 4 TXA, 5 RXA, 6 NC, 7 GPIO0, 8 GPIO1, 9 RF_PWR, 10 NC, 11 VBAT, 12 VCC_IN, 13 NC, 14 NC, 15 NC, 16 NC, 17 VCC_RF_OUT, 18 GND, 19 RF_IN, 20 GND, 21 GND, 22 GND

## GPS_ANT
designator J?, comment ANT
GPS陶瓷天线25mm*25mm
footprint GPS_ANT (25mm*25m)
pins: 1 ANT

## GPS_NEO-6
designator U?
footprint GPS_NEO-6 (NEO-6G/NEO-6M/NEO-6Q)
pins: 1 NC, 2 SS_N/NC, 3 TIMEPULSE, 4 EXTINT0, 5 USB_DM, 6 USB_DP, 7 VDDUSB, 8 NC, 9 VCC_RF, 10 GND, 11 RF_IN, 12 GND, 13 GND, 14 MOSI/CFG_COM0, 15 MISO/CFG_COM1, 16 CFG_GPS0/SCK, 17 NC, 18 SDA2, 19 SCL2, 20 TXD1, 21 RXD1, 22 V_BCKP, 23 VCC, 24 GND

## GPS_S1613
designator U?
footprint GPS_S1613 (S1613/C3631)
pins: 1 RF_IN, 2 GND, 3 GND, 4 GND, 5 BAT, 6 GND, 7 BOOT, 8 GND, 9 GND, 10 GND, 11 VDD, 12 GND, 13 RESET, 14 GND, 15 GND, 16 ECLK, 17 GND, 18 NC, 19 GND, 20 1PPS, 21 GND, 22 GND, 23 GND, 24 GND, 25 TIMESYNC, 26 GND, 27 ON/OFF, 28 GND, 29 GND, 30 TXA, 31 RXA, 32 RXB, 33 GND, 34 TXB, 35 GND, 36 GND

## GT6
designator J?, comment CTOUCH
footprint CTOUCH_6_BTM
footprint CTOUCH_6_TOP
pins: 1 INT, 2 SDA, 3 SCL, 4 RST, 5 GND, 6 VCC

## GT811
designator U?
电容触摸IC
footprint QFN40-0.4 (QFN, 40-Leads, Body 5.0x5.0mm (max), Pitch 0.40mm, IPC Medium Density)
pins: 1 SENS0, 2 SENS1, 3 SENS2, 4 SENS3, 5 SNES4, 6 SNES5, 7 SENS6, 8 SENS7, 9 SENS8, 10 SENS9, 11 NC, 12 AVDD, 13 DVDD, 14 DGND, 15 INT, 16 SENSOR_ID, 17 NC, 18 I2C_SDA, 19 I2C_SCL, 20 NC, 21 VDDIO, 22 ~{RSTB}, 23 DRV15, 24 DRV14, 25 DRV13, 26 DRV12, 27 DRV11, 28 DRV10, 29 DRV9, 30 DRV8, 31 DRV7, 32 DRV6, 33 DRV5, 34 DRV4, 35 DRV3, 36 DRV2, 37 DRV1, 38 DRV0, 39 VREF, 40 AGND, 41 EGND

## GTM900C
designator GPRS?
footprint GTM900C (HW,GTM900C)
pins: 1 BATT+, 2 BATT+, 3 BATT+, 4 BATT+, 5 BATT+, 6 GND, 7 GND, 8 GND, 9 GND, 10 GND, 11 RXD1, 12 TXD1, 13 VDD, 14 ADC1, 15 PWON, 16 DSR0, 17 RI0, 18 RXD0, 19 TXD0, 20 CTS0, 21 RTS0, 22 DTR0, 23 DCD0, 24 SIM_CD, 25 SIM_RST, 26 SIM_DATA, 27 SIM_CLK, 28 SIM_VCC, 29 SIM_GND, 30 Vbackup, 31 ADC2/RST, 32 LPG, 33 AUXO+, 34 AUXO-, 35 EAR+, 36 EAR-, 37 MIC+, 38 MIC-, 39 AUXI+, 40 AUXI-

## HC-05
designator U?
蓝牙串口模块
footprint HC-0x (HC03/HC04/HC05/HC06/HC07)
pins: 1 UART_TXD, 2 UART_RXD, 3 UART_CTS, 4 UART_RTS, 5 PCM_CLK, 6 PCM_OUT, 7 PCM_IN, 8 PCM_SYNC, 9 AIO0, 10 AIO1, 11 RESET, 12 VCC3.3, 13 GND, 14 NC, 15 D-, 16 CSB, 17 MOSI, 18 MISO, 19 CLK, 20 D+, 21 GND, 22 GND, 23 PIO0, 24 PIO1, 25 PIO2, 26 PIO3, 27 PIO4, 28 PIO5, 29 PIO6, 30 PIO7, 31 PIO8, 32 PIO9, 33 PIO10, 34 PIO11

## HEAD1
designator P?, comment Header1
footprint HDR1 (Connector; Header; 1 Position)
pins: 1

## HEAD2
designator HEAD?
footprint HEAD2H (HEAD5.08)
footprint HEAD2L (HEAD5.08)
footprint HEAD2L-0.8 (10.16mm*10.16mm,pin:5.08mm)
footprint HEAD2W (2EDG-2,pin:5.08mm)
pins: 1, 2

## HEAD2*9_SIDE
designator P?
footprint HEAD2*9-SIDE (PIN:2.54mm;HEAD;)
pins: 1, 2, 3, 4, 5, 6, 7, 8, 9, 10, 11, 12, 13, 14, 15, 16, 17, 18

## HEAD2*17_SOP
designator P?
footprint HEAD2*17_SOP (PIN:2.54mm;HEAD;)
pins: 1, 2, 3, 4, 5, 6, 7, 8, 9, 10, 11, 12, 13, 14, 15, 16, 17, 18, 19, 20, 21, 22, 23, 24, 25, 26, 27, 28, 29, 30, 31, 32, 33, 34

## HEAD2*20
designator P?
footprint HEAD2*20 (PIN:2.54mm;HEAD;)
pins: 1, 2, 3, 4, 5, 6, 7, 8, 9, 10, 11, 12, 13, 14, 15, 16, 17, 18, 19, 20, 21, 22, 23, 24, 25, 26, 27, 28, 29, 30, 31, 32, 33, 34, 35, 36, 37, 38, 39, 40

## HEAD2*22
designator P?
footprint HEAD2*22 (PIN:2.54mm;HEAD;)
pins: 1, 2, 3, 4, 5, 6, 7, 8, 9, 10, 11, 12, 13, 14, 15, 16, 17, 18, 19, 20, 21, 22, 23, 24, 25, 26, 27, 28, 29, 30, 31, 32, 33, 34, 35, 36, 37, 38, 39, 40, 41, 42, 43, 44

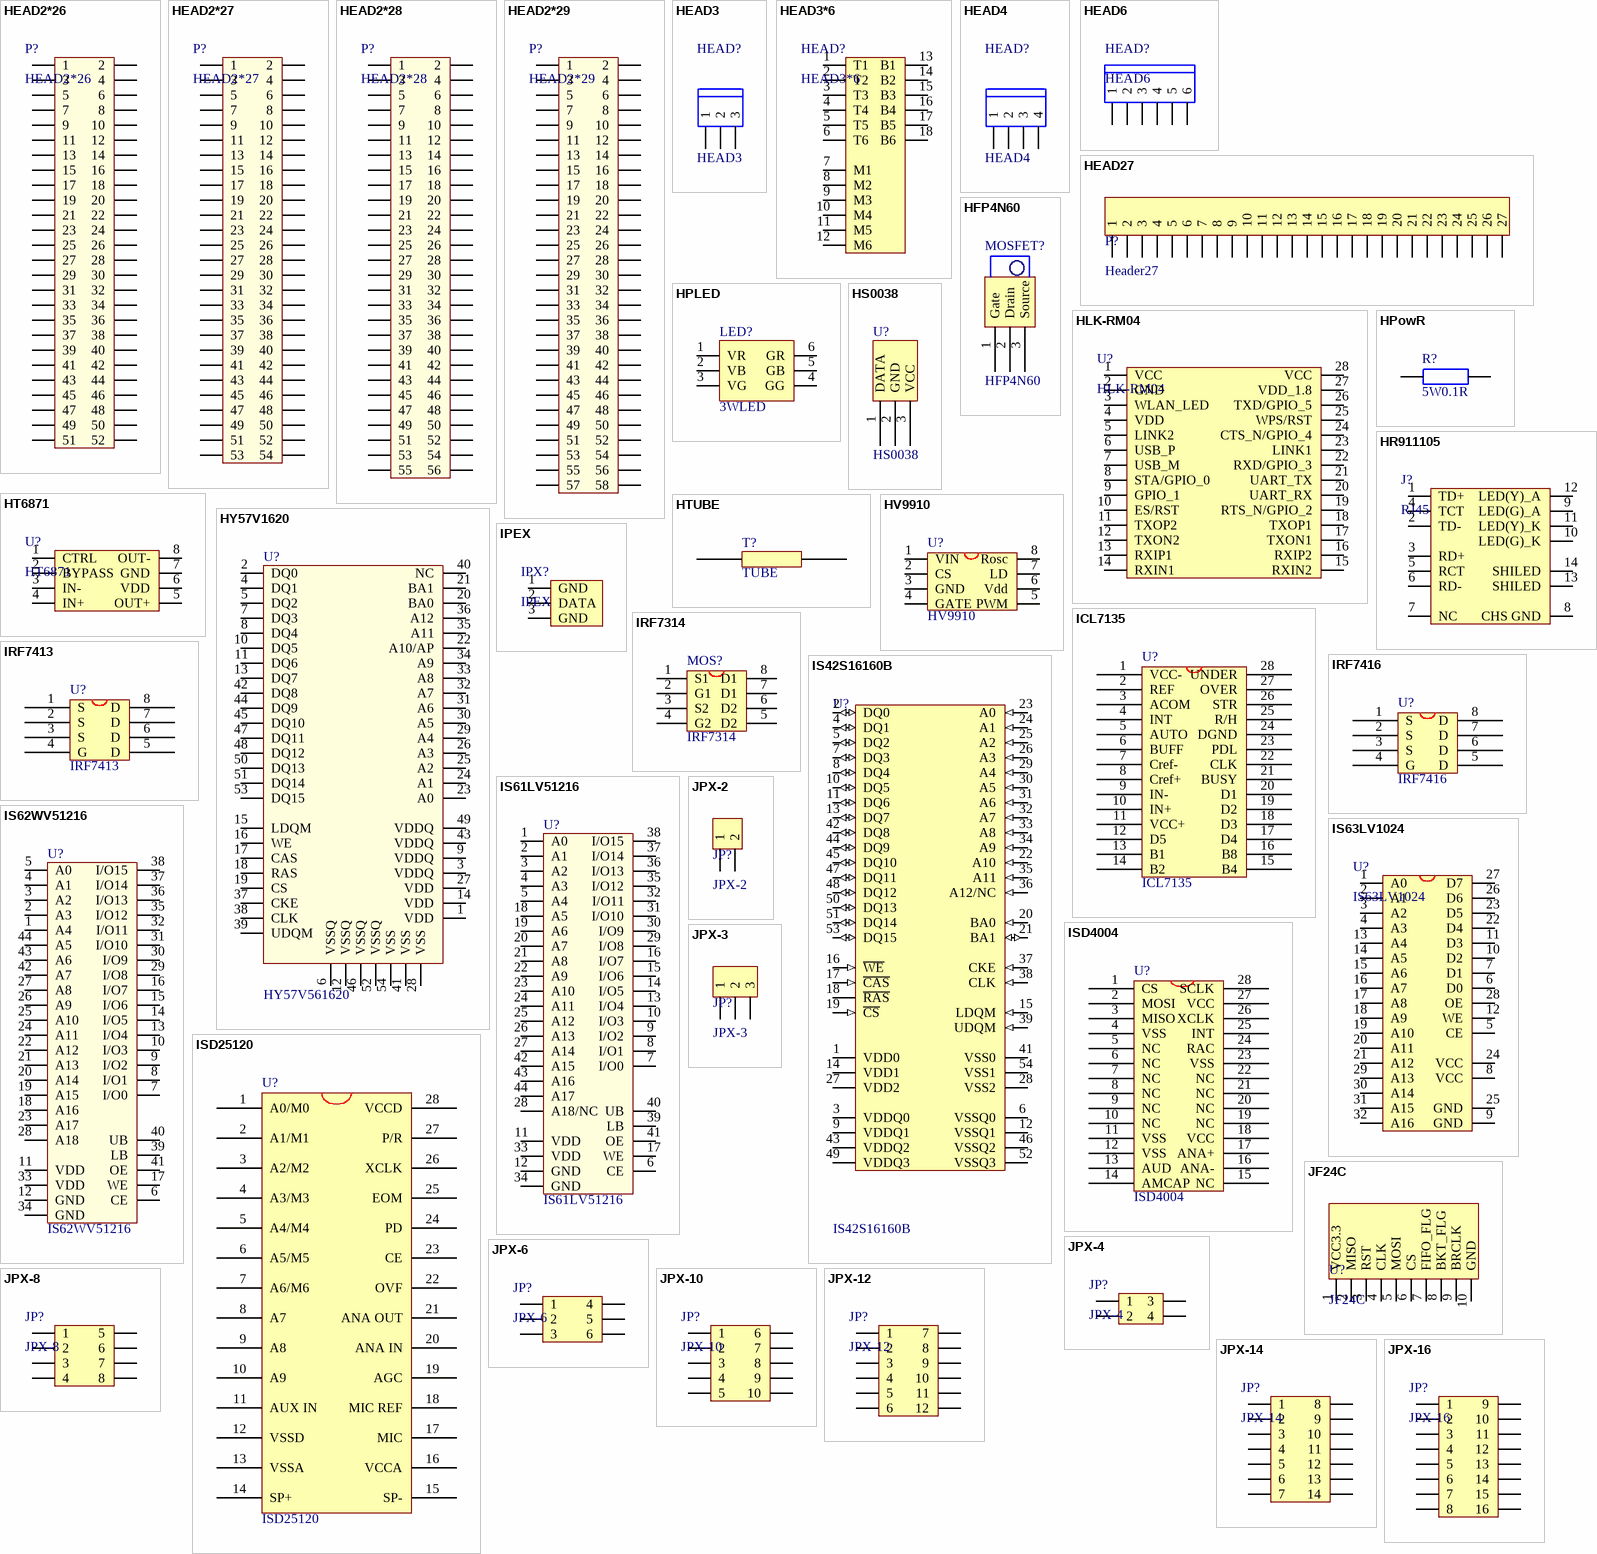
[diagram p4: symbols HEAD2*26 to JPX-16]

## HEAD2*26
designator P?
footprint HEAD2*26 (PIN:2.54mm;HEAD;)
pins: 1, 2, 3, 4, 5, 6, 7, 8, 9, 10, 11, 12, 13, 14, 15, 16, 17, 18, 19, 20, 21, 22, 23, 24, 25, 26, 27, 28, 29, 30, 31, 32, 33, 34, 35, 36, 37, 38, 39, 40, 41, 42, 43, 44, 45, 46, 47, 48, 49, 50, 51, 52

## HEAD2*27
designator P?
footprint HEAD2*27 (PIN:2.54mm;HEAD;)
pins: 1, 2, 3, 4, 5, 6, 7, 8, 9, 10, 11, 12, 13, 14, 15, 16, 17, 18, 19, 20, 21, 22, 23, 24, 25, 26, 27, 28, 29, 30, 31, 32, 33, 34, 35, 36, 37, 38, 39, 40, 41, 42, 43, 44, 45, 46, 47, 48, 49, 50, 51, 52, 53, 54

## HEAD2*28
designator P?
footprint HEAD2*28 (PIN:2.54mm;HEAD;)
pins: 1, 2, 3, 4, 5, 6, 7, 8, 9, 10, 11, 12, 13, 14, 15, 16, 17, 18, 19, 20, 21, 22, 23, 24, 25, 26, 27, 28, 29, 30, 31, 32, 33, 34, 35, 36, 37, 38, 39, 40, 41, 42, 43, 44, 45, 46, 47, 48, 49, 50, 51, 52, 53, 54, 55, 56

## HEAD2*29
designator P?
footprint HEAD2*29 (PIN:2.54mm;HEAD;)
pins: 1, 2, 3, 4, 5, 6, 7, 8, 9, 10, 11, 12, 13, 14, 15, 16, 17, 18, 19, 20, 21, 22, 23, 24, 25, 26, 27, 28, 29, 30, 31, 32, 33, 34, 35, 36, 37, 38, 39, 40, 41, 42, 43, 44, 45, 46, 47, 48, 49, 50, 51, 52, 53, 54, 55, 56, 57, 58

## HEAD3
designator HEAD?
footprint MKDSN_3RMI
pins: 1, 2, 3

## HEAD3*6
designator HEAD?
footprint HEAD3*6 (Connector; Header; 6x3 Position)
pins: 1 T1, 2 T2, 3 T3, 4 T4, 5 T5, 6 T6, 7 M1, 8 M2, 9 M3, 10 M4, 11 M5, 12 M6, 13 B1, 14 B2, 15 B3, 16 B4, 17 B5, 18 B6

## HEAD4
designator HEAD?
footprint HEAD4H (20.32*10.16,pin:5.08mm)
footprint HEAD4L (20.32*10.16,pin:5.08mm)
footprint HEAD4L-0.8 (20mm*8mm,pin:5.08mm)
pins: 1, 2, 3, 4

## HEAD6
designator HEAD?
footprint HEAD6L-0.8 (30mm*8mm,pin:5.08mm)
pins: 1, 2, 3, 4, 5, 6

## HEAD27
designator P?, comment Header27
footprint HDR27 (Connector; Header; 27 Position)
pins: 1, 2, 3, 4, 5, 6, 7, 8, 9, 10, 11, 12, 13, 14, 15, 16, 17, 18, 19, 20, 21, 22, 23, 24, 25, 26, 27

## HFP4N60
designator MOSFET?
footprint TO-220
pins: 1 Gate, 2 Drain, 3 Source

## HLK-RM04
designator U?
footprint HLK-RM04 (WIFI Module)
pins: 1 VCC, 2 GND, 3 WLAN_LED, 4 VDD, 5 LINK2, 6 USB_P, 7 USB_M, 8 STA/GPIO_0, 9 GPIO_1, 10 ES/RST, 11 TXOP2, 12 TXON2, 13 RXIP1, 14 RXIN1, 15 RXIN2, 16 RXIP2, 17 TXON1, 18 TXOP1, 19 RTS_N/GPIO_2, 20 UART_RX, 21 UART_TX, 22 RXD/GPIO_3, 23 LINK1, 24 CTS_N/GPIO_4, 25 WPS/RST, 26 TXD/GPIO_5, 27 VDD_1.8, 28 VCC

## HPLED
designator LED?, comment 3WLED
footprint 3WLEDM (RGBLED)
pins: 1 VR, 2 VB, 3 VG, 4 GG, 5 GB, 6 GR

## HPowR
designator R?, comment 5W0.1R
footprint HPowR (HPR)
pins: 1, 2

## HR911105
designator J?, comment RJ45
footprint HR911105A (NET_WORK)
pins: 1 TD+, 2 TD-, 3 RD+, 4 TCT, 5 RCT, 6 RD-, 7 NC, 8 CHS GND, 9 LED(G)_A, 10 LED(G)_K, 11 LED(Y)_K, 12 LED(Y)_A, 13 SHILED, 14 SHILED

## HS0038
designator U?
footprint HS0038
pins: 1 DATA, 2 GND, 3 VCC

## HT6871
designator U?
footprint SOP-8 (SOP)
pins: 1 CTRL, 2 BYPASS, 3 IN-, 4 IN+, 5 OUT+, 6 VDD, 7 GND, 8 OUT-

## HTUBE
designator T?, comment TUBE
footprint TUBE (YTUBE)
pins: 0, 1

## HV9910
designator U?
footprint SOP-8
pins: 1 VIN, 2 CS, 3 GND, 4 GATE, 5 PWM, 6 Vdd, 7 LD, 8 Rosc

## HY57V1620
designator U?, comment HY57V561620
footprint TSOP54
pins: 1 VDD, 2 DQ0, 3 VDDQ, 4 DQ1, 5 DQ2, 6 VSSQ, 7 DQ3, 8 DQ4, 9 VDDQ, 10 DQ5, 11 DQ6, 12 VSSQ, 13 DQ7, 14 VDD, 15 LDQM, 16 WE, 17 CAS, 18 RAS, 19 CS, 20 BA0, 21 BA1, 22 A10/AP, 23 A0, 24 A1, 25 A2, 26 A3, 27 VDD, 28 VSS, 29 A4, 30 A5, 31 A6, 32 A7, 33 A8, 34 A9, 35 A11, 36 A12, 37 CKE, 38 CLK, 39 UDQM, 40 NC, 41 VSS, 42 DQ8, 43 VDDQ, 44 DQ9, 45 DQ10, 46 VSSQ, 47 DQ11, 48 DQ12, 49 VDDQ, 50 DQ13, 51 DQ14, 52 VSSQ, 53 DQ15, 54 VSS

## ICL7135
designator U?
footprint DIP-28/D38.1 (DIP; 28 Leads; Row Spacing 15.24 mm; Pitch 2.54 mm)
pins: 1 VCC-, 2 REF, 3 ACOM, 4 INT, 5 AUTO, 6 BUFF, 7 Cref-, 8 Cref+, 9 IN-, 10 IN+, 11 VCC+, 12 D5, 13 B1, 14 B2, 15 B4, 16 B8, 17 D4, 18 D3, 19 D2, 20 D1, 21 BUSY, 22 CLK, 23 PDL, 24 DGND, 25 R/H, 26 STR, 27 OVER, 28 UNDER

## IPEX
designator IPX?
IPEX座
footprint IPEX (IPEX座 2.6mm*2.6mm*1.25mm)
pins: 1 GND, 2 DATA, 3 GND

## IRF7314
designator MOS?
footprint SOP-8 (SSOP8)
pins: 1 S1, 2 G1, 3 S2, 4 G2, 5 D2, 6 D2, 7 D1, 8 D1

## IRF7413
designator U?
footprint SOP-8 (SSOP8)
pins: 1 S, 2 S, 3 S, 4 G, 5 D, 6 D, 7 D, 8 D

## IRF7416
designator U?
footprint SOP-8 (SSOP8)
pins: 1 S, 2 S, 3 S, 4 G, 5 D, 6 D, 7 D, 8 D

## IS42S16160B
designator U?
32MB SDRAM
footprint TSOP54
pins: 1 VDD0 (power), 2 DQ0 (io), 3 VDDQ0 (power), 4 DQ1 (io), 5 DQ2 (io), 6 VSSQ0 (power), 7 DQ3 (io), 8 DQ4 (io), 9 VDDQ1 (power), 10 DQ5 (io), 11 DQ6 (io), 12 VSSQ1 (power), 13 DQ7 (io), 14 VDD1 (power), 15 LDQM (in), 16 ~{WE} (in), 17 ~{CAS} (in), 18 ~{RAS}, 19 ~{CS} (in), 20 BA0 (in), 21 BA1 (io), 22 A10 (in), 23 A0 (in), 24 A1 (in), 25 A2 (in), 26 A3 (in), 27 VDD2 (power), 28 VSS2 (power), 29 A4 (in), 30 A5 (in), 31 A6 (in), 32 A7 (in), 33 A8 (in), 34 A9 (in), 35 A11 (in), 36 A12/NC (in), 37 CKE (in), 38 CLK (in), 39 UDQM (in), 41 VSS0 (power), 42 DQ8 (io), 43 VDDQ2 (power), 44 DQ9 (io), 45 DQ10 (io), 46 VSSQ2 (power), 47 DQ11 (io), 48 DQ12 (io), 49 VDDQ3 (power), 50 DQ13 (io), 51 DQ14 (io), 52 VSSQ3 (power), 53 DQ15 (io), 54 VSS1 (power)
2 alternate drawings of the same symbol

## IS61LV51216
designator U?
footprint TSOP44
pins: 1 A0, 2 A1, 3 A2, 4 A3, 5 A4, 6 CE, 7 I/O0, 8 I/O1, 9 I/O2, 10 I/O3, 11 VDD, 12 GND, 13 I/O4, 14 I/O5, 15 I/O6, 16 I/O7, 17 WE, 18 A5, 19 A6, 20 A7, 21 A8, 22 A9, 23 A10, 24 A11, 25 A12, 26 A13, 27 A14, 28 A18/NC, 29 I/O8, 30 I/O9, 31 I/O10, 32 I/O11, 33 VDD, 34 GND, 35 I/O12, 36 I/O13, 37 I/O14, 38 I/O15, 39 LB, 40 UB, 41 OE, 42 A15, 43 A16, 44 A17

## IS62WV51216
designator U?
footprint TSOP44
pins: 1 A4, 2 A3, 3 A2, 4 A1, 5 A0, 6 CE, 7 I/O0, 8 I/O1, 9 I/O2, 10 I/O3, 11 VDD, 12 GND, 13 I/O4, 14 I/O5, 15 I/O6, 16 I/O7, 17 WE, 18 A16, 19 A15, 20 A14, 21 A13, 22 A12, 23 A17, 24 A11, 25 A10, 26 A9, 27 A8, 28 A18, 29 I/O8, 30 I/O9, 31 I/O10, 32 I/O11, 33 VDD, 34 GND, 35 I/O12, 36 I/O13, 37 I/O14, 38 I/O15, 39 LB, 40 UB, 41 OE, 42 A7, 43 A6, 44 A5

## IS63LV1024
designator U?
footprint TSOP32C
pins: 1 A0, 2 A1, 3 A2, 4 A3, 5 CE, 6 D0, 7 D1, 8 VCC, 9 GND, 10 D2, 11 D3, 12 WE, 13 A4, 14 A5, 15 A6, 16 A7, 17 A8, 18 A9, 19 A10, 20 A11, 21 A12, 22 D4, 23 D5, 24 VCC, 25 GND, 26 D6, 27 D7, 28 OE, 29 A13, 30 A14, 31 A15, 32 A16

## ISD4004
designator U?
footprint DIP-28/D38.1
pins: 1 CS, 2 MOSI, 3 MISO, 4 VSS, 5 NC, 6 NC, 7 NC, 8 NC, 9 NC, 10 NC, 11 VSS, 12 VSS, 13 AUD, 14 AMCAP, 15 NC, 16 ANA-, 17 ANA+, 18 VCC, 19 NC, 20 NC, 21 NC, 22 NC, 23 VSS, 24 RAC, 25 INT, 26 XCLK, 27 VCC, 28 SCLK

## ISD25120
designator U?
footprint DIP-28/X1.6 (DIP; 28 Leads; Row Spacing 15.24 mm; Pitch 2.54 mm)
pins: 1 A0/M0, 2 A1/M1, 3 A2/M2, 4 A3/M3, 5 A4/M4, 6 A5/M5, 7 A6/M6, 8 A7, 9 A8, 10 A9, 11 AUX IN, 12 VSSD, 13 VSSA, 14 SP+, 15 SP-, 16 VCCA, 17 MIC, 18 MIC REF, 19 AGC, 20 ANA IN, 21 ANA OUT, 22 OVF, 23 CE, 24 PD, 25 EOM, 26 XCLK, 27 P/R, 28 VCCD

## JF24C
designator U?
footprint JF24C
pins: 1 VCC3.3, 2 MISO, 3 RST, 4 CLK, 5 MOSI, 6 CS, 7 FIFO_FLG, 8 BKT_FLG, 9 BRCLK, 10 GND

## JPX-2
designator JP?
footprint JPX-2
pins: 1, 2

## JPX-3
designator JP?
footprint JPX-3 (PIN:4.2*6mm;H:13mm;HOLE:1.4mm;)
pins: 1, 2, 3

## JPX-4
designator JP?
footprint JPX-4
pins: 1, 2, 3, 4

## JPX-6
designator JP?
footprint JPX-6
pins: 1, 2, 3, 4, 5, 6

## JPX-8
designator JP?
footprint JPX-8 (PIN:4.2*6mm;H:13mm;HOLE:1.4mm;)
pins: 1, 2, 3, 4, 5, 6, 7, 8

## JPX-10
designator JP?
footprint JPX-10 (PIN:4.2*6mm;H:13mm;HOLE:1.4mm;)
pins: 1, 2, 3, 4, 5, 6, 7, 8, 9, 10

## JPX-12
designator JP?
footprint JPX-12 (PIN:4.2*6mm;H:13mm;HOLE:1.4mm;)
pins: 1, 2, 3, 4, 5, 6, 7, 8, 9, 10, 11, 12

## JPX-14
designator JP?
footprint JPX-14 (PIN:4.2*6mm;H:13mm;HOLE:1.4mm;)
pins: 1, 2, 3, 4, 5, 6, 7, 8, 9, 10, 11, 12, 13, 14

## JPX-16
designator JP?
footprint JPX-16
pins: 1, 2, 3, 4, 5, 6, 7, 8, 9, 10, 11, 12, 13, 14, 15, 16

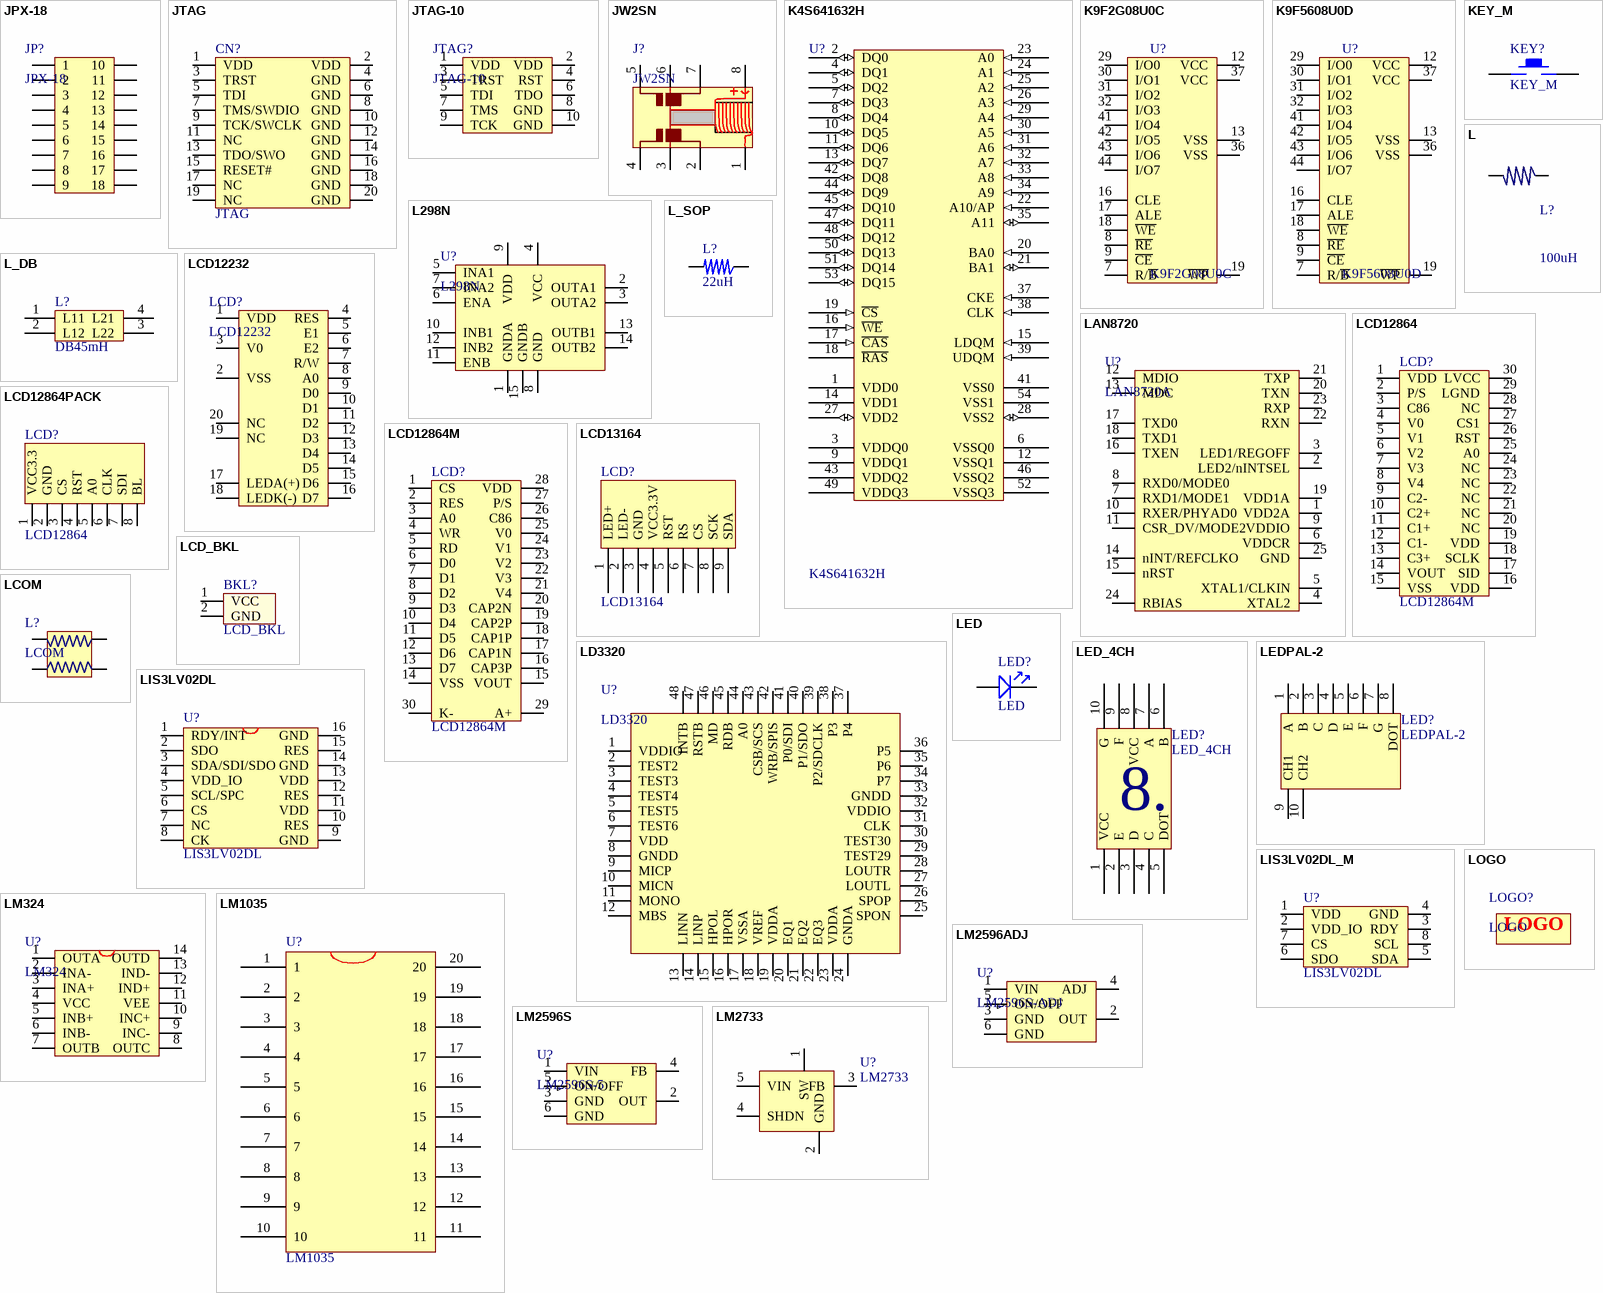
[diagram p5: symbols JPX-18 to LOGO]

## JPX-18
designator JP?
footprint JPX-18
pins: 1, 2, 3, 4, 5, 6, 7, 8, 9, 10, 11, 12, 13, 14, 15, 16, 17, 18

## JTAG
designator CN?
footprint JTAG_20 (JTAG,20PIN)
footprint IDC-20(2.54)IDE
pins: 1 VDD, 2 VDD, 3 TRST, 4 GND, 5 TDI, 6 GND, 7 TMS/SWDIO, 8 GND, 9 TCK/SWCLK, 10 GND, 11 NC, 12 GND, 13 TDO/SWO, 14 GND, 15 RESET#, 16 GND, 17 NC, 18 GND, 19 NC, 20 GND

## JTAG-10
designator JTAG?
footprint JTAG_10_2.0 (2.0)
footprint JTAG_10_2.54 (JTAG,20PIN)
pins: 1 VDD, 2 VDD, 3 TRST, 4 RST, 5 TDI, 6 TDO, 7 TMS, 8 GND, 9 TCK, 10 GND

## JW2SN
designator J?
footprint JW2
pins: 1, 2, 3, 4, 5, 6, 7, 8

## K4S641632H
designator U?
8MB SDRAM
footprint TSOP54
pins: 1 VDD0 (power), 2 DQ0 (io), 3 VDDQ0 (power), 4 DQ1 (io), 5 DQ2 (io), 6 VSSQ0 (power), 7 DQ3 (io), 8 DQ4 (io), 9 VDDQ1 (power), 10 DQ5 (io), 11 DQ6 (io), 12 VSSQ1 (power), 13 DQ7 (io), 14 VDD1 (power), 15 LDQM (in), 16 ~{WE} (in), 17 ~{CAS} (in), 18 ~{RAS}, 19 ~{CS} (in), 20 BA0 (in), 21 BA1 (io), 22 A10/AP (in), 23 A0 (in), 24 A1 (in), 25 A2 (in), 26 A3 (in), 27 VDD2 (io), 28 VSS2 (io), 29 A4 (in), 30 A5 (in), 31 A6 (in), 32 A7 (in), 33 A8 (in), 34 A9 (in), 35 A11 (io), 37 CKE (in), 38 CLK (in), 39 UDQM (in), 41 VSS0 (power), 42 DQ8 (io), 43 VDDQ2 (power), 44 DQ9 (io), 45 DQ10 (io), 46 VSSQ2 (power), 47 DQ11 (io), 48 DQ12 (io), 49 VDDQ3 (power), 50 DQ13 (io), 51 DQ14 (io), 52 VSSQ3 (power), 53 DQ15 (io), 54 VSS1 (power)
2 alternate drawings of the same symbol

## K9F2G08U0C
designator U?
256MB NAND FLASH
footprint TSOP48
pins: 7 R/~{B}, 8 ~{RE}, 9 ~{CE}, 12 VCC, 13 VSS, 16 CLE, 17 ALE, 18 ~{WE}, 19 ~{WP}, 29 I/O0, 30 I/O1, 31 I/O2, 32 I/O3, 36 VSS, 37 VCC, 41 I/O4, 42 I/O5, 43 I/O6, 44 I/O7

## K9F5608U0D
designator U?
32MB NAND FLASH
footprint TSOP48
pins: 7 R/~{B}, 8 ~{RE}, 9 ~{CE}, 12 VCC, 13 VSS, 16 CLE, 17 ALE, 18 ~{WE}, 19 ~{WP}, 29 I/O0, 30 I/O1, 31 I/O2, 32 I/O3, 36 VSS, 37 VCC, 41 I/O4, 42 I/O5, 43 I/O6, 44 I/O7

## KEY_M
designator KEY?
footprint KEY_M (KEY_MID)
footprint KEY_2 (KEY?)
footprint KEY_SOP_BG (KEY?)
footprint KEY_SOP3625 (KEY,3mm*6mm*2.5mm)
pins: 1, 2

## L
designator L?, comment 100uH
footprint L3A (L)
footprint L4.7
footprint L_USER (SELF_DEF)
footprint L10 (10mH)
footprint SMD7850
footprint 0805
footprint 1206
footprint L_SOPL (L_LARGE)
footprint L_CD43 (4mm*4mm)
footprint 0603P
footprint L_SOP4 (4mm*4mm*1.7mm)
pins: 1, 2

## L298N
designator U?
footprint KV015 (TO, Thru-Hole, Vertical, Heatsink Mounted; 15 Bent Staggered Leads; Pitch 1.27 mm)
footprint KV015 - R (TO, Thru-Hole, Vertical, Heatsink Mounted; 15 Bent Staggered Leads; Pitch 1.27 mm)
pins: 1 GNDA, 2 OUTA1, 3 OUTA2, 4 VCC, 5 INA1, 6 ENA, 7 INA2, 8 GND, 9 VDD, 10 INB1, 11 ENB, 12 INB2, 13 OUTB1, 14 OUTB2, 15 GNDB

## L_DB
designator L?, comment DB45mH
footprint L_DB (DBL45mH)
pins: 1 L11, 2 L12, 3 L22, 4 L21

## L_SOP
designator L?, comment 22uH
footprint L_SOPL (L_LARGE)
footprint L_SOPS (L_4*4)
footprint L10 (10mH)
footprint L_SOP74 (7.4*7.4)
footprint L_CD43 (4mm*4mm)
pins: 1, 2

## LAN8720
designator U?, comment LAN8720A
ETH PHY
footprint QFN24 (QFN, 24-Leads, Body 4.0x4.0mm (max), Pitch 0.50mm, IPC Medium Density)
pins: 1 VDD2A, 2 LED2/nINTSEL, 3 LED1/REGOFF, 4 XTAL2, 5 XTAL1/CLKIN, 6 VDDCR, 7 RXD1/MODE1, 8 RXD0/MODE0, 9 VDDIO, 10 RXER/PHYAD0, 11 CSR_DV/MODE2, 12 MDIO, 13 MDC, 14 nINT/REFCLKO, 15 nRST, 16 TXEN, 17 TXD0, 18 TXD1, 19 VDD1A, 20 TXN, 21 TXP, 22 RXN, 23 RXP, 24 RBIAS, 25 GND

## LCD12232
designator LCD?
footprint FPC-18 (18PIN,0.5MM)
pins: 1 VDD, 2 VSS, 3 V0, 4 RES, 5 E1, 6 E2, 7 R/W, 8 A0, 9 D0, 10 D1, 11 D2, 12 D3, 13 D4, 14 D5, 15 D6, 16 D7, 17 LEDA(+), 18 LEDK(-), 19 NC, 20 NC

## LCD12864
designator LCD?, comment LCD12864M
footprint LCD12864 (SMALL SIZE)
pins: 1 VDD, 2 P/S, 3 C86, 4 V0, 5 V1, 6 V2, 7 V3, 8 V4, 9 C2-, 10 C2+, 11 C1+, 12 C1-, 13 C3+, 14 VOUT, 15 VSS, 16 VDD, 17 SID, 18 SCLK, 19 VDD, 20 NC, 21 NC, 22 NC, 23 NC, 24 NC, 25 A0, 26 RST, 27 CS1, 28 NC, 29 LGND, 30 LVCC

## LCD12864M
designator LCD?
footprint LCD12864M (MID SIZE)
footprint LCD12864M-BACK (MID SIZE BACK CN)
pins: 1 CS, 2 RES, 3 A0, 4 WR, 5 RD, 6 D0, 7 D1, 8 D2, 9 D3, 10 D4, 11 D5, 12 D6, 13 D7, 14 VSS, 15 VOUT, 16 CAP3P, 17 CAP1N, 18 CAP1P, 19 CAP2P, 20 CAP2N, 21 V4, 22 V3, 23 V2, 24 V1, 25 V0, 26 C86, 27 P/S, 28 VDD, 29 A+, 30 K-

## LCD12864PACK
designator LCD?, comment LCD12864
footprint LCD12864PACK (LCD12864)
pins: 1 VCC3.3, 2 GND, 3 CS, 4 RST, 5 A0, 6 CLK, 7 SDI, 8 BL

## LCD13164
designator LCD?
footprint LCD13164
pins: 1 LED+, 2 LED-, 3 GND, 4 VCC3.3V, 5 RST, 6 RS, 7 CS, 8 SCK, 9 SDA

## LCD_BKL
designator BKL?
footprint LCD_BKL (LCD_BACK_LIGHT)
pins: 1 VCC, 2 GND

## LCOM
designator L?
L COMMON
footprint L_2COM (common L;PIN:8*7;SIZE:16*10)
pins: 1, 2, 3, 4

## LD3320
designator U?
footprint QFN48 (QFN, 48-Leads, Body 7.0x7.0mm (max), Pitch 0.50mm, IPC Low Density)
pins: 1 VDDIO, 2 TEST2, 3 TEST3, 4 TEST4, 5 TEST5, 6 TEST6, 7 VDD, 8 GNDD, 9 MICP, 10 MICN, 11 MONO, 12 MBS, 13 LINN, 14 LINP, 15 HPOL, 16 HPOR, 17 VSSA, 18 VREF, 19 VDDA, 20 EQ1, 21 EQ2, 22 EQ3, 23 VDDA, 24 GNDA, 25 SPON, 26 SPOP, 27 LOUTL, 28 LOUTR, 29 TEST29, 30 TEST30, 31 CLK, 32 VDDIO, 33 GNDD, 34 P7, 35 P6, 36 P5, 37 P4, 38 P3, 39 P2/SDCLK, 40 P1/SDO, 41 P0/SDI, 42 WRB/SPIS, 43 CSB/SCS, 44 A0, 45 RDB, 46 MD, 47 RSTB, 48 INTB

## LED
designator LED?
footprint LED-DIP (PIN:2.54MM;H:5MM;)
footprint SMDLED-0603 (0603)
footprint SMDLED-0805 (0805)
footprint SMDLED-3528 (3528)
pins: 1, 2

## LED_4CH
designator LED?
footprint LED_4CH
pins: 1 VCC, 2 E, 3 D, 4 C, 5 DOT, 6 B, 7 A, 8 VCC, 9 F, 10 G
text: 8.

## LEDPAL-2
designator LED?
pins: 1 A, 2 B, 3 C, 4 D, 5 E, 6 F, 7 G, 8 DOT, 9 CH1, 10 CH2

## LIS3LV02DL
designator U?
footprint LGA-16 (ECOPACK)
pins: 1 RDY/INT, 2 SDO, 3 SDA/SDI/SDO, 4 VDD_IO, 5 SCL/SPC, 6 CS, 7 NC, 8 CK, 9 GND, 10 RES, 11 VDD, 12 RES, 13 VDD, 14 GND, 15 RES, 16 GND

## LIS3LV02DL_M
designator U?, comment LIS3LV02DL
footprint LIS3LV02DL_M (LIS3LV02DL)
pins: 1 VDD, 2 VDD_IO, 3 RDY, 4 GND, 5 SDA, 6 SDO, 7 CS, 8 SCL

## LM324
designator U?
footprint SOP14W (CD4066)
pins: 1 OUTA, 2 INA-, 3 INA+, 4 VCC, 5 INB+, 6 INB-, 7 OUTB, 8 OUTC, 9 INC-, 10 INC+, 11 VEE, 12 IND+, 13 IND-, 14 OUTD

## LM1035
designator U?
footprint DIP-20 (DIP; 20 Leads; Row Spacing 7.62 mm; Pitch 2.54 mm)
pins: 1, 2, 3, 4, 5, 6, 7, 8, 9, 10, 11, 12, 13, 14, 15, 16, 17, 18, 19, 20

## LM2596ADJ
designator U?, comment LM2596S-ADJ
footprint TS5B (D2-PAK; 5 Leads; Body 14.4 (inc. leads) x 10.4 mm (LxW max))
pins: 1 VIN, 2 OUT, 3 GND, 4 ADJ, 5 ON/OFF, 6 GND

## LM2596S
designator U?, comment LM2596S-5
footprint TO-263-5
footprint TS5B (D2-PAK; 5 Leads; Body 14.4 (inc. leads) x 10.4 mm (LxW max))
pins: 1 VIN, 2 OUT, 3 GND, 4 FB, 5 ON/OFF, 6 GND

## LM2733
designator U?
footprint SO-G5/P.95 (SOT-23/SC-74A; 5 Leads; Body 3.1 x 3 mm, inc. leads (LxW max))
pins: 1 SW, 2 GND, 3 FB, 4 SHDN, 5 VIN

## LOGO
designator LOGO?
footprint TEST_LOGO

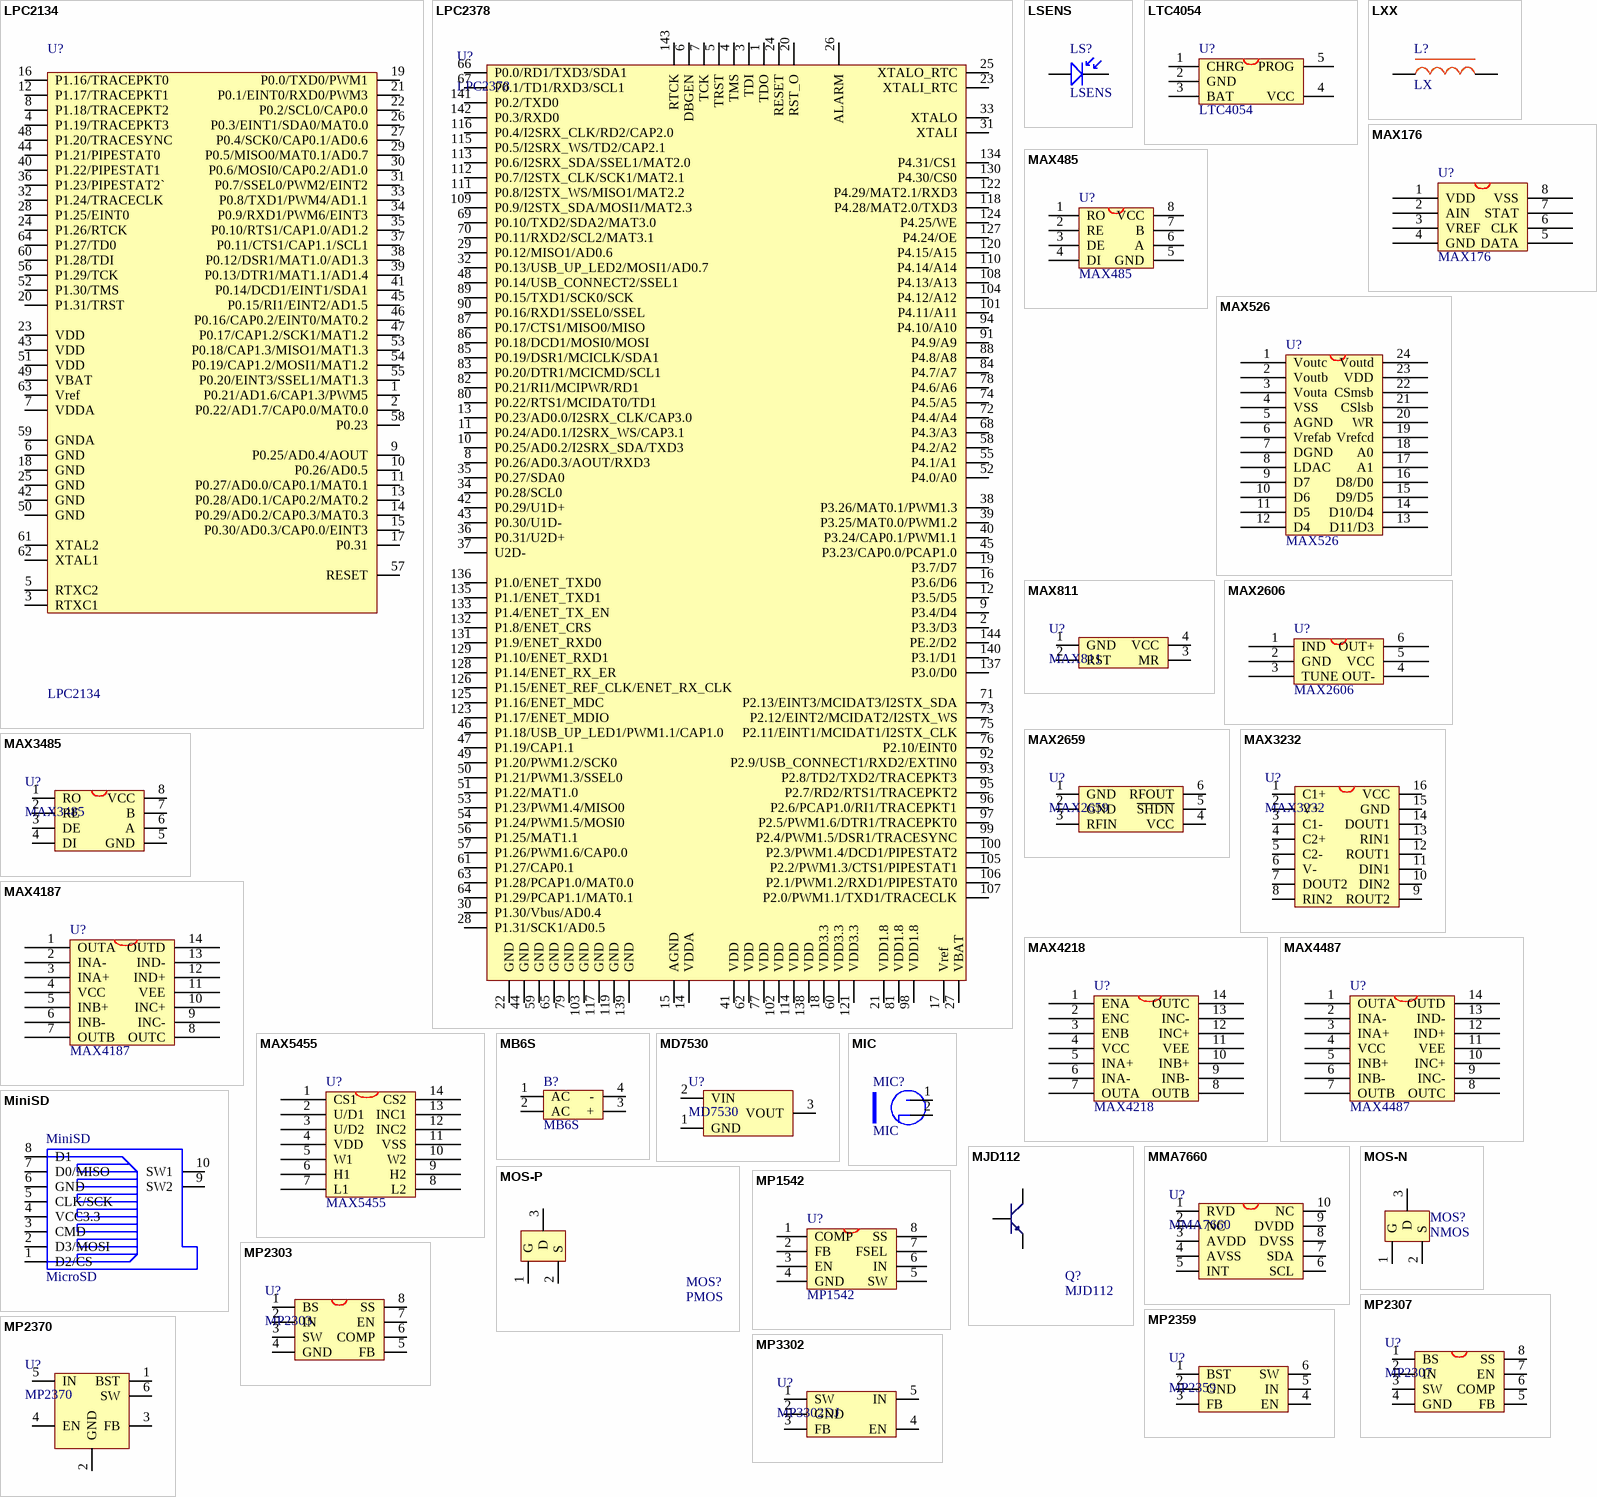
[diagram p6: symbols LPC2134 to MP3302]

## LPC2134
designator U?
footprint LQFP64
pins: 1 P0.21/AD1.6/CAP1.3/PWM5, 2 P0.22/AD1.7/CAP0.0/MAT0.0, 3 RTXC1, 4 P1.19/TRACEPKT3, 5 RTXC2, 6 GND, 7 VDDA, 8 P1.18/TRACEPKT2, 9 P0.25/AD0.4/AOUT, 10 P0.26/AD0.5, 11 P0.27/AD0.0/CAP0.1/MAT0.1, 12 P1.17/TRACEPKT1, 13 P0.28/AD0.1/CAP0.2/MAT0.2, 14 P0.29/AD0.2/CAP0.3/MAT0.3, 15 P0.30/AD0.3/CAP0.0/EINT3, 16 P1.16/TRACEPKT0, 17 P0.31, 18 GND, 19 P0.0/TXD0/PWM1, 20 P1.31/TRST, 21 P0.1/EINT0/RXD0/PWM3, 22 P0.2/SCL0/CAP0.0, 23 VDD, 24 P1.26/RTCK, 25 GND, 26 P0.3/EINT1/SDA0/MAT0.0, 27 P0.4/SCK0/CAP0.1/AD0.6, 28 P1.25/EINT0, 29 P0.5/MISO0/MAT0.1/AD0.7, 30 P0.6/MOSI0/CAP0.2/AD1.0, 31 P0.7/SSEL0/PWM2/EINT2, 32 P1.24/TRACECLK, 33 P0.8/TXD1/PWM4/AD1.1, 34 P0.9/RXD1/PWM6/EINT3, 35 P0.10/RTS1/CAP1.0/AD1.2, 36 P1.23/PIPESTAT2`, 37 P0.11/CTS1/CAP1.1/SCL1, 38 P0.12/DSR1/MAT1.0/AD1.3, 39 P0.13/DTR1/MAT1.1/AD1.4, 40 P1.22/PIPESTAT1, 41 P0.14/DCD1/EINT1/SDA1, 42 GND, 43 VDD, 44 P1.21/PIPESTAT0, 45 P0.15/RI1/EINT2/AD1.5, 46 P0.16/CAP0.2/EINT0/MAT0.2, 47 P0.17/CAP1.2/SCK1/MAT1.2, 48 P1.20/TRACESYNC, 49 VBAT, 50 GND, 51 VDD, 52 P1.30/TMS, 53 P0.18/CAP1.3/MISO1/MAT1.3, 54 P0.19/CAP1.2/MOSI1/MAT1.2, 55 P0.20/EINT3/SSEL1/MAT1.3, 56 P1.29/TCK, 57 RESET, 58 P0.23, 59 GNDA, 60 P1.28/TDI, 61 XTAL2, 62 XTAL1, 63 Vref, 64 P1.27/TD0

## LPC2378
designator U?
footprint LQFP144
pins: 1 TDO, 2 P3.3/D3, 3 TDI, 4 TMS, 5 TRST, 6 DBGEN, 7 TCK, 8 P0.26/AD0.3/AOUT/RXD3, 9 P3.4/D4, 10 P0.25/AD0.2/I2SRX_SDA/TXD3, 11 P0.24/AD0.1/I2SRX_WS/CAP3.1, 12 P3.5/D5, 13 P0.23/AD0.0/I2SRX_CLK/CAP3.0, 14 VDDA, 15 AGND, 16 P3.6/D6, 17 Vref, 18 VDD3.3, 19 P3.7/D7, 20 RST_O, 21 VDD1.8, 22 GND, 23 XTALI_RTC, 24 RESET, 25 XTALO_RTC, 26 ALARM, 27 VBAT, 28 P1.31/SCK1/AD0.5, 29 P0.12/MISO1/AD0.6, 30 P1.30/Vbus/AD0.4, 31 XTALI, 32 P0.13/USB_UP_LED2/MOSI1/AD0.7, 33 XTALO, 34 P0.28/SCL0, 35 P0.27/SDA0, 36 P0.31/U2D+, 37 U2D-, 38 P3.26/MAT0.1/PWM1.3, 39 P3.25/MAT0.0/PWM1.2, 40 P3.24/CAP0.1/PWM1.1, 41 VDD, 42 P0.29/U1D+, 43 P0.30/U1D-, 44 GND, 45 P3.23/CAP0.0/PCAP1.0, 46 P1.18/USB_UP_LED1/PWM1.1/CAP1.0, 47 P1.19/CAP1.1, 48 P0.14/USB_CONNECT2/SSEL1, 49 P1.20/PWM1.2/SCK0, 50 P1.21/PWM1.3/SSEL0, 51 P1.22/MAT1.0, 52 P4.0/A0, 53 P1.23/PWM1.4/MISO0, 54 P1.24/PWM1.5/MOSI0, 55 P4.1/A1, 56 P1.25/MAT1.1, 57 P1.26/PWM1.6/CAP0.0, 58 P4.2/A2, 59 GND, 60 VDD3.3, 61 P1.27/CAP0.1, 62 VDD, 63 P1.28/PCAP1.0/MAT0.0, 64 P1.29/PCAP1.1/MAT0.1, 65 GND, 66 P0.0/RD1/TXD3/SDA1, 67 P0.1/TD1/RXD3/SCL1, 68 P4.3/A3, 69 P0.10/TXD2/SDA2/MAT3.0, 70 P0.11/RXD2/SCL2/MAT3.1, 71 P2.13/EINT3/MCIDAT3/I2STX_SDA, 72 P4.4/A4, 73 P2.12/EINT2/MCIDAT2/I2STX_WS, 74 P4.5/A5, 75 P2.11/EINT1/MCIDAT1/I2STX_CLK, 76 P2.10/EINT0, 77 VDD, 78 P4.6/A6, 79 GND, 80 P0.22/RTS1/MCIDAT0/TD1, 81 VDD1.8, 82 P0.21/RI1/MCIPWR/RD1, 83 P0.20/DTR1/MCICMD/SCL1, 84 P4.7/A7, 85 P0.19/DSR1/MCICLK/SDA1, 86 P0.18/DCD1/MOSI0/MOSI, 87 P0.17/CTS1/MISO0/MISO, 88 P4.8/A8, 89 P0.15/TXD1/SCK0/SCK, 90 P0.16/RXD1/SSEL0/SSEL, 91 P4.9/A9, 92 P2.9/USB_CONNECT1/RXD2/EXTIN0, 93 P2.8/TD2/TXD2/TRACEPKT3, 94 P4.10/A10, 95 P2.7/RD2/RTS1/TRACEPKT2, 96 P2.6/PCAP1.0/RI1/TRACEPKT1, 97 P2.5/PWM1.6/DTR1/TRACEPKT0, 98 VDD1.8, 99 P2.4/PWM1.5/DSR1/TRACESYNC, 100 P2.3/PWM1.4/DCD1/PIPESTAT2, 101 P4.11/A11, 102 VDD, 103 GND, 104 P4.12/A12, 105 P2.2/PWM1.3/CTS1/PIPESTAT1, 106 P2.1/PWM1.2/RXD1/PIPESTAT0, 107 P2.0/PWM1.1/TXD1/TRACECLK, 108 P4.13/A13, 109 P0.9/I2STX_SDA/MOSI1/MAT2.3, 110 P4.14/A14, 111 P0.8/I2STX_WS/MISO1/MAT2.2, 112 P0.7/I2STX_CLK/SCK1/MAT2.1, 113 P0.6/I2SRX_SDA/SSEL1/MAT2.0, 114 VDD, 115 P0.5/I2SRX_WS/TD2/CAP2.1, 116 P0.4/I2SRX_CLK/RD2/CAP2.0, 117 GND, 118 P4.28/MAT2.0/TXD3, 119 GND, 120 P4.15/A15, 121 VDD3.3, 122 P4.29/MAT2.1/RXD3, 123 P1.17/ENET_MDIO, 124 P4.25/WE, 125 P1.16/ENET_MDC, 126 P1.15/ENET_REF_CLK/ENET_RX_CLK, 127 P4.24/OE, 128 P1.14/ENET_RX_ER, 129 P1.10/ENET_RXD1, 130 P4.30/CS0, 131 P1.9/ENET_RXD0, 132 P1.8/ENET_CRS, 133 P1.4/ENET_TX_EN, 134 P4.31/CS1, 135 P1.1/ENET_TXD1, 136 P1.0/ENET_TXD0, 137 P3.0/D0, 138 VDD, 139 GND, 140 P3.1/D1, 141 P0.2/TXD0, 142 P0.3/RXD0, 143 RTCK, 144 PE.2/D2

## LSENS
designator LS?
LIGHT SENS
footprint SMDLED
pins: 1, 2

## LTC4054
designator U?
footprint SOT-23-5
pins: 1 CHRG, 2 GND, 3 BAT, 4 VCC, 5 PROG

## LXX
designator L?, comment LX
footprint LXX
pins: 1, 2

## MAX176
designator U?
footprint DIP-8
pins: 1 VDD, 2 AIN, 3 VREF, 4 GND, 5 DATA, 6 CLK, 7 STAT, 8 VSS

## MAX485
designator U?
footprint DIP-8 (DIP; 8 Leads; Row Spacing 7.62 mm; Pitch 2.54 mm)
pins: 1 RO, 2 RE, 3 DE, 4 DI, 5 GND, 6 A, 7 B, 8 VCC

## MAX526
designator U?
footprint DIP-24
pins: 1 Voutc, 2 Voutb, 3 Vouta, 4 VSS, 5 AGND, 6 Vrefab, 7 DGND, 8 LDAC, 9 D7, 10 D6, 11 D5, 12 D4, 13 D11/D3, 14 D10/D4, 15 D9/D5, 16 D8/D0, 17 A1, 18 A0, 19 Vrefcd, 20 WR, 21 CSlsb, 22 CSmsb, 23 VDD, 24 Voutd

## MAX811
designator U?
MAX811L/M/T/S/R
footprint SOT-143B
pins: 1 GND, 2 RST, 3 MR, 4 VCC

## MAX2606
designator U?
footprint mSOP6
pins: 1 IND, 2 GND, 3 TUNE, 4 OUT-, 5 VCC, 6 OUT+

## MAX2659
designator U?
GPS LNA
footprint UDFN (QFN, 6-Leads, Body 1.5x1.0mm (max), Pitch 0.50mm, IPC Medium Density)
pins: 1 GND, 2 GND, 3 RFIN, 4 VCC, 5 ~{SHDN}, 6 RFOUT

## MAX3232
designator U?
footprint SOP16M (Small Outline; 16 Leads; Body Width 3.9 mm; Pitch 1.27 mm)
pins: 1 C1+, 2 V+, 3 C1-, 4 C2+, 5 C2-, 6 V-, 7 DOUT2, 8 RIN2, 9 ROUT2, 10 DIN2, 11 DIN1, 12 ROUT1, 13 RIN1, 14 DOUT1, 15 GND, 16 VCC

## MAX3485
designator U?
footprint SOP-8 (SOP)
pins: 1 RO, 2 RE, 3 DE, 4 DI, 5 GND, 6 A, 7 B, 8 VCC

## MAX4187
designator U?
footprint SOP14
pins: 1 OUTA, 2 INA-, 3 INA+, 4 VCC, 5 INB+, 6 INB-, 7 OUTB, 8 OUTC, 9 INC-, 10 INC+, 11 VEE, 12 IND+, 13 IND-, 14 OUTD

## MAX4218
designator U?
footprint SOP14
pins: 1 ENA, 2 ENC, 3 ENB, 4 VCC, 5 INA+, 6 INA-, 7 OUTA, 8 OUTB, 9 INB-, 10 INB+, 11 VEE, 12 INC+, 13 INC-, 14 OUTC

## MAX4487
designator U?
footprint SOP14
pins: 1 OUTA, 2 INA-, 3 INA+, 4 VCC, 5 INB+, 6 INB-, 7 OUTB, 8 OUTC, 9 INC-, 10 INC+, 11 VEE, 12 IND+, 13 IND-, 14 OUTD

## MAX5455
designator U?
footprint SOP16
pins: 1 CS1, 2 U/D1, 3 U/D2, 4 VDD, 5 W1, 6 H1, 7 L1, 8 L2, 9 H2, 10 W2, 11 VSS, 12 INC2, 13 INC1, 14 CS2

## MB6S
designator B?
footprint MB6S
footprint KBPC (2W10)
pins: 1 AC, 2 AC, 3 +, 4 -

## MD7530
designator U?
footprint SOT-89
pins: 1 GND, 2 VIN, 3 VOUT

## MIC
designator MIC?
footprint MIC-6022 (6mm*2.2mm)
footprint MIC-9767 (9.7mm*6.7mm)
pins: 1 VCC, 2 GND
1 alternate drawing of the same symbol

## MiniSD
designator MiniSD, comment MicroSD
footprint MSD(TF)
pins: 1 D2/CS, 2 D3/MOSI, 3 CMD, 4 VCC3.3, 5 CLK/SCK, 6 GND, 7 D0/MISO, 8 D1, 9 SW2, 10 SW1

## MJD112
designator Q?
达林顿管 100V 2A
footprint TO-252 (DPAK)
footprint NPN
pins: 1 B, 2 C, 3 E

## MMA7660
designator U?
MMA7660FC
footprint QFN12 (QFN, 12-Leads, Body 3.2x3.2mm (max), Pitch 0.50mm, IPC High Density)
pins: 1 RVD, 2 NC, 3 AVDD, 4 AVSS, 5 INT, 6 SCL, 7 SDA, 8 DVSS, 9 DVDD, 10 NC

## MOS-N
designator MOS?, comment NMOS
AP2306
footprint SO-G3/C2.5 (SOT-23; 3 Leads; Body 3.0 x 2.6 mm, inc. leads (LxW max))
pins: 1 G, 2 S, 3 D